# Altium schematic symbol library Digital.SchLib: 92 symbols (part 1 of 3)
Pins are listed as number, name and electrical type; pins without a type are passive.

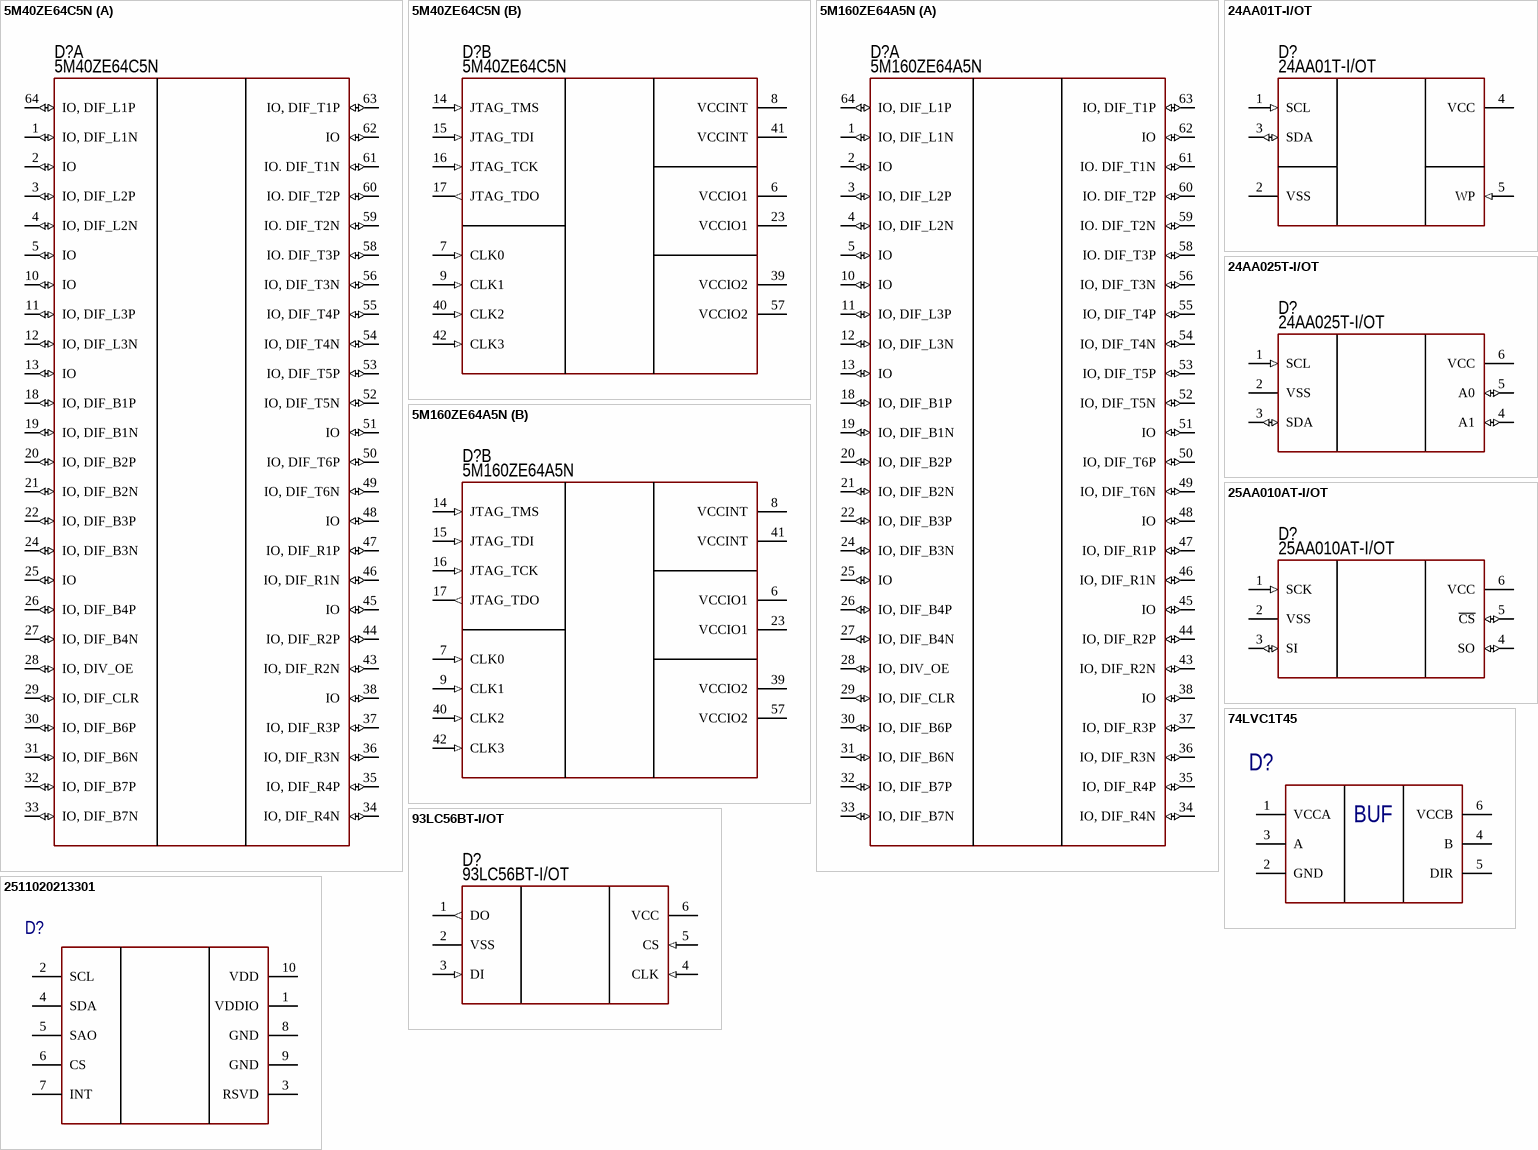
[diagram p0: symbols 5M40ZE64C5N to 2511020213301]

## 5M40ZE64C5N
designator D?
CPLD; Manufacturer: Altera; Model: 5M40ZE64C5N; HelpURL: https://www.digikey.com/products/en?keywords=5M40ZE64C5N; ComponentKind: 64-EQFP
footprint 64-EQFP
part A pins: 1 IO, DIF_L1N (io), 2 IO (io), 3 IO, DIF_L2P (io), 4 IO, DIF_L2N (io), 5 IO (io), 10 IO (io), 11 IO, DIF_L3P (io), 12 IO, DIF_L3N (io), 13 IO (io), 18 IO, DIF_B1P (io), 19 IO, DIF_B1N (io), 20 IO, DIF_B2P (io), 21 IO, DIF_B2N (io), 22 IO, DIF_B3P (io), 24 IO, DIF_B3N (io), 25 IO (io), 26 IO, DIF_B4P (io), 27 IO, DIF_B4N (io), 28 IO, DIV_OE (io), 29 IO, DIF_CLR (io), 30 IO, DIF_B6P (io), 31 IO, DIF_B6N (io), 32 IO, DIF_B7P (io), 33 IO, DIF_B7N (io), 34 IO, DIF_R4N (io), 35 IO, DIF_R4P (io), 36 IO, DIF_R3N (io), 37 IO, DIF_R3P (io), 38 IO (io), 43 IO, DIF_R2N (io), 44 IO, DIF_R2P (io), 45 IO (io), 46 IO, DIF_R1N (io), 47 IO, DIF_R1P (io), 48 IO (io), 49 IO, DIF_T6N (io), 50 IO, DIF_T6P (io), 51 IO (io), 52 IO, DIF_T5N (io), 53 IO, DIF_T5P (io), 54 IO, DIF_T4N (io), 55 IO, DIF_T4P (io), 56 IO, DIF_T3N (io), 58 IO. DIF_T3P (io), 59 IO. DIF_T2N (io), 60 IO. DIF_T2P (io), 61 IO. DIF_T1N (io), 62 IO (io), 63 IO, DIF_T1P (io), 64 IO, DIF_L1P (io)
part B pins: 6 VCCIO1 (power), 7 CLK0 (in), 8 VCCINT (power), 9 CLK1 (in), 14 JTAG_TMS (in), 15 JTAG_TDI (in), 16 JTAG_TCK (in), 17 JTAG_TDO (out), 23 VCCIO1 (power), 39 VCCIO2 (power), 40 CLK2 (in), 41 VCCINT (power), 42 CLK3 (in), 57 VCCIO2 (power)

## 5M160ZE64A5N
designator D?
CPLD; Manufacturer: Altera; Model: 5M160ZE64A5N; HelpURL: https://ru.mouser.com/ProductDetail/Intel-Altera/5M160ZE64A5N?qs=%2fha2pyFadugKio1SOCu6I%252bsDitheG9SqkG7k%252bT3t3%252bc61s5iRZpPlg%3d%3d; ComponentKind: 64-EQFP
footprint 64-EQFP
part A pins: 1 IO, DIF_L1N (io), 2 IO (io), 3 IO, DIF_L2P (io), 4 IO, DIF_L2N (io), 5 IO (io), 10 IO (io), 11 IO, DIF_L3P (io), 12 IO, DIF_L3N (io), 13 IO (io), 18 IO, DIF_B1P (io), 19 IO, DIF_B1N (io), 20 IO, DIF_B2P (io), 21 IO, DIF_B2N (io), 22 IO, DIF_B3P (io), 24 IO, DIF_B3N (io), 25 IO (io), 26 IO, DIF_B4P (io), 27 IO, DIF_B4N (io), 28 IO, DIV_OE (io), 29 IO, DIF_CLR (io), 30 IO, DIF_B6P (io), 31 IO, DIF_B6N (io), 32 IO, DIF_B7P (io), 33 IO, DIF_B7N (io), 34 IO, DIF_R4N (io), 35 IO, DIF_R4P (io), 36 IO, DIF_R3N (io), 37 IO, DIF_R3P (io), 38 IO (io), 43 IO, DIF_R2N (io), 44 IO, DIF_R2P (io), 45 IO (io), 46 IO, DIF_R1N (io), 47 IO, DIF_R1P (io), 48 IO (io), 49 IO, DIF_T6N (io), 50 IO, DIF_T6P (io), 51 IO (io), 52 IO, DIF_T5N (io), 53 IO, DIF_T5P (io), 54 IO, DIF_T4N (io), 55 IO, DIF_T4P (io), 56 IO, DIF_T3N (io), 58 IO. DIF_T3P (io), 59 IO. DIF_T2N (io), 60 IO. DIF_T2P (io), 61 IO. DIF_T1N (io), 62 IO (io), 63 IO, DIF_T1P (io), 64 IO, DIF_L1P (io)
part B pins: 6 VCCIO1 (power), 7 CLK0 (in), 8 VCCINT (power), 9 CLK1 (in), 14 JTAG_TMS (in), 15 JTAG_TDI (in), 16 JTAG_TCK (in), 17 JTAG_TDO (out), 23 VCCIO1 (power), 39 VCCIO2 (power), 40 CLK2 (in), 41 VCCINT (power), 42 CLK3 (in), 57 VCCIO2 (power)

## 24AA01T-I/OT
designator D?
EEPROM; Manufacturer: Microchip Technology; Model: 24AA01T-I/OT; HelpURL: https://www.digikey.com/product-detail/en/microchip-technology/24AA01T-I-OT/24AA01T-I-OTCT-ND/857670; ComponentKind: SOT23-5
footprint SOT23-5 (SOT23, 5-Leads, Body 2,90x2,80mm, Pitch 0,95mm, IPC Medium Density)
pins: 1 SCL (in), 2 VSS (power), 3 SDA (io), 4 VCC (power), 5 WP (in)

## 24AA025T-I/OT
designator D?
EEPROM; Manufacturer: Microchip Technology; Model: 24AA025T-I/OT; HelpURL: https://www.digikey.com/product-detail/en/microchip-technology/24AA025T-I-OT/24AA025T-I-OTCT-ND/2060104; ComponentKind: SOT23-6
footprint SOT23-6 (SOT23, 6-Leads, Body 2,90x2,45mm, Pitch 0,95mm, IPC Medium Density)
pins: 1 SCL (in), 2 VSS (power), 3 SDA (io), 4 A1 (io), 5 A0 (io), 6 VCC (power)

## 25AA010AT-I/OT
designator D?
EEPROM; Manufacturer: Microchip Technology; Model: 25AA010AT-I/OT; HelpURL: https://www.digikey.com/product-detail/en/microchip-technology/25AA010AT-I-OT/25AA010AT-I-OTCT-ND/1212539; ComponentKind: SOT23-6
footprint SOT23-6 (SOT23, 6-Leads, Body 2,90x2,45mm, Pitch 0,95mm, IPC Medium Density)
pins: 1 SCK (in), 2 VSS (power), 3 SI (io), 4 SO (io), 5 ~{CS} (io), 6 VCC (power)

## 74LVC1T45
designator D?, comment 74LVCH1T45GW,125  (value not drawn)
Manufacturer: NEXPERIA; ValueManufacturerPartNumber: 74LVCH1T45GW,125 NEXPERIA; Model: 74LVCH1T45GW,125; Package: TSSOP-6; HelpURL: https://www.nexperia.com/products/analog-logic-ics/asynchronous-interface-logic/voltage-translators-level-shifters/series/74LVC1T45-74LVCH1T45.html
pins: 1 VCCA, 2 GND, 3 A, 4 B, 5 DIR, 6 VCCB
text: BUF

## 93LC56BT-I/OT
designator D?
EEPROM; Manufacturer: Microchip Technology; Model: 93LC56BT-I/OT; HelpURL: https://www.digikey.com/product-detail/en/microchip-technology/93LC56BT-I-OT/93LC56BT-I-OTCT-ND/857632; ComponentKind: SOT23-6
footprint SOT23-6 (SOT23, 6-Leads, Body 2,90x2,45mm, Pitch 0,95mm, IPC Medium Density)
pins: 1 DO (out), 2 VSS (power), 3 DI (in), 4 CLK (in), 5 CS (in), 6 VCC (power)

## 2511020213301
designator D?  (value not drawn)
Absolute Pressure Sensor; Manufacturer: WURTH; Model: 2511020213301; Package: 10-WFLGA; HelpURL: https://www.we-online.com/catalog/en/WSEN-PADS
pins: 1 VDDIO (power) "3.3V supply", 2 SCL "I2C/ SPI serial clock", 3 RSVD (power) "Connect to ground", 4 SDA "I2C serial data; SPI serial data input", 5 SAO "I2C device address selection", 6 CS "I2C enable/disable", 7 INT (power) "Interrupt", 8 GND (power) "Provides timing of the serial interface", 9 GND (power), 10 VDD (power) "3.3V supply"

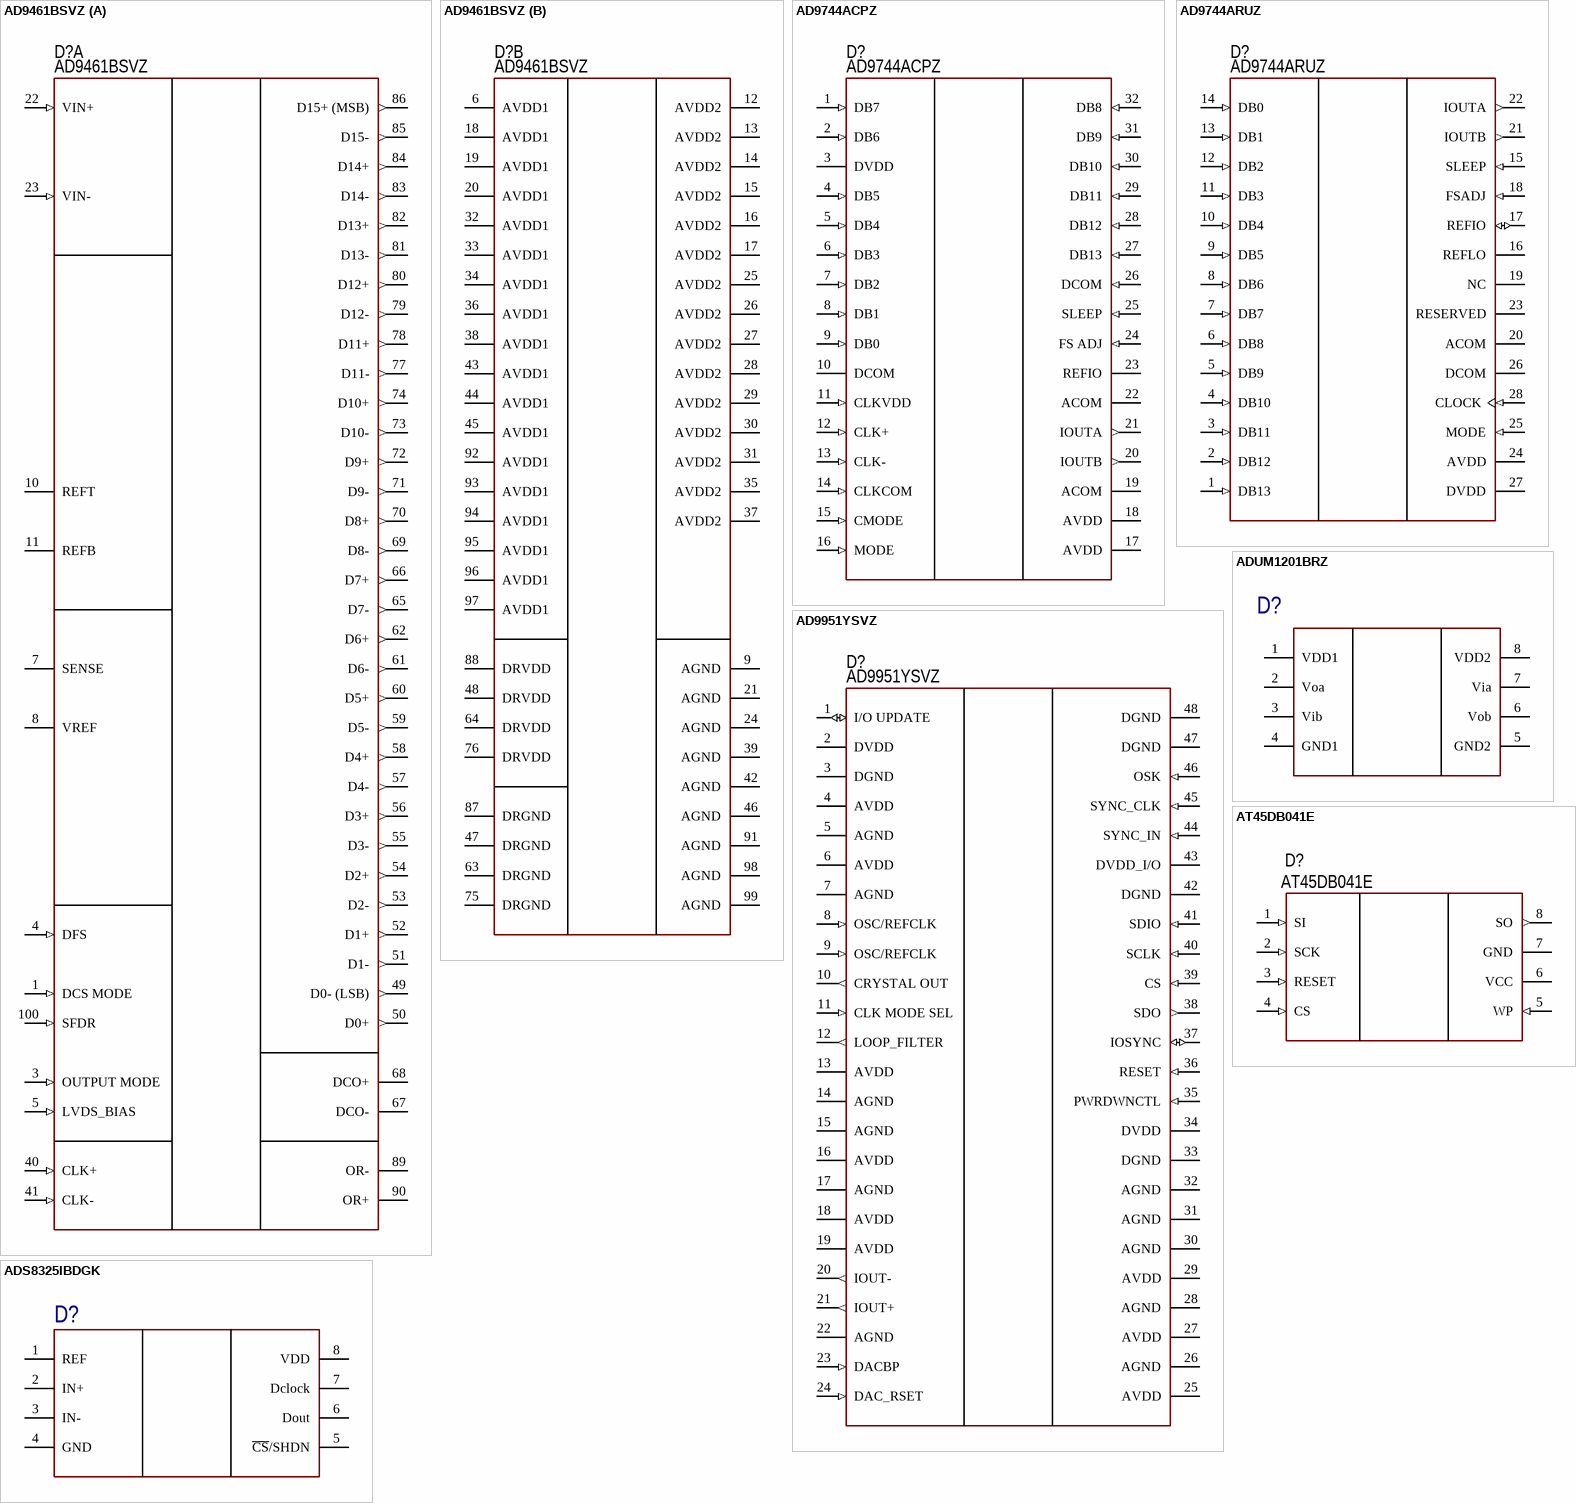
[diagram p1: symbols AD9461BSVZ to AT45DB041E]

## AD9461BSVZ
designator D?
ADC; Manufacturer: Analog Devices; Model: AD9461BSVZ; HelpURL: https://www.digikey.com/products/en?keywords=AD9461BSVZ; ComponentKind: 100-LQFP
footprint 100-LQFP (Thin QFP, 100-Leads, Body 14x14mm, Pitch 0.5mm, IPC Medium Density)
part A pins: 1 DCS MODE (in), 3 OUTPUT MODE (in), 4 DFS (in), 5 LVDS_BIAS (in), 7 SENSE (power), 8 VREF (power), 10 REFT (power), 11 REFB (power), 22 VIN+ (in), 23 VIN- (in), 40 CLK+ (in), 41 CLK- (in), 49 D0- (LSB) (out), 50 D0+ (out), 51 D1- (out), 52 D1+ (out), 53 D2- (out), 54 D2+ (out), 55 D3- (out), 56 D3+ (out), 57 D4- (out), 58 D4+ (out), 59 D5- (out), 60 D5+ (out), 61 D6- (out), 62 D6+ (out), 65 D7- (out), 66 D7+ (out), 67 DCO-, 68 DCO+, 69 D8- (out), 70 D8+ (out), 71 D9- (out), 72 D9+ (out), 73 D10- (out), 74 D10+ (out), 77 D11- (out), 78 D11+ (out), 79 D12- (out), 80 D12+ (out), 81 D13- (out), 82 D13+ (out), 83 D14- (out), 84 D14+ (out), 85 D15- (out), 86 D15+ (MSB) (out), 89 OR-, 90 OR+, 100 SFDR (in)
part B pins: 6 AVDD1 (power), 9 AGND (power), 12 AVDD2 (power), 13 AVDD2 (power), 14 AVDD2 (power), 15 AVDD2 (power), 16 AVDD2 (power), 17 AVDD2 (power), 18 AVDD1 (power), 19 AVDD1 (power), 20 AVDD1 (power), 21 AGND (power), 24 AGND (power), 25 AVDD2 (power), 26 AVDD2 (power), 27 AVDD2 (power), 28 AVDD2 (power), 29 AVDD2 (power), 30 AVDD2 (power), 31 AVDD2 (power), 32 AVDD1 (power), 33 AVDD1 (power), 34 AVDD1 (power), 35 AVDD2 (power), 36 AVDD1 (power), 37 AVDD2 (power), 38 AVDD1 (power), 39 AGND (power), 42 AGND (power), 43 AVDD1 (power), 44 AVDD1 (power), 45 AVDD1 (power), 46 AGND (power), 47 DRGND (power), 48 DRVDD (power), 63 DRGND (power), 64 DRVDD (power), 75 DRGND (power), 76 DRVDD (power), 87 DRGND (power), 88 DRVDD (power), 91 AGND (power), 92 AVDD1 (power), 93 AVDD1 (power), 94 AVDD1 (power), 95 AVDD1 (power), 96 AVDD1 (power), 97 AVDD1 (power), 98 AGND (power), 99 AGND (power)

## AD9744ACPZ
designator D?
DAC; Manufacturer: Analog Devices; Model: AD9744ACPZ; HelpURL: https://www.digikey.com/product-detail/en/analog-devices-inc/AD9744ACPZRL7/AD9744ACPZRL7CT-ND/3740746; ComponentKind: 32-VQFN
footprint 32-VQFN (5x5 mm) (QFN, 32-Leads, Body 5x5mm, Pitch 0.5mm, Thermal Pad 3.45x3.45mm, TI Recommended)
pins: 1 DB7 (in), 2 DB6 (in), 3 DVDD (power), 4 DB5 (in), 5 DB4 (in), 6 DB3 (in), 7 DB2 (in), 8 DB1 (in), 9 DB0 (in), 10 DCOM (power), 11 CLKVDD (in), 12 CLK+ (in), 13 CLK- (in), 14 CLKCOM (in), 15 CMODE (in), 16 MODE (in), 17 AVDD (power), 18 AVDD (power), 19 ACOM (power), 20 IOUTB (out), 21 IOUTA (out), 22 ACOM (power), 23 REFIO (power), 24 FS ADJ (in), 25 SLEEP (in), 26 DCOM (in), 27 DB13 (in), 28 DB12 (in), 29 DB11 (in), 30 DB10 (in), 31 DB9 (in), 32 DB8 (in)

## AD9744ARUZ
designator D?
DAC; Manufacturer: Analog Devices; Model: AD9744ARUZ; ComponentKind: 28-TSSOP; HelpURL: https://www.digikey.com/product-detail/en/analog-devices-inc/AD9744ARUZRL7/AD9744ARUZRL7CT-ND/3678594
footprint 28-TSSOP (SOP, 28-Leads, Body 9,70x4,40mm, Pitch 0,65mm, IPC Medium Density)
pins: 1 DB13 (in) "Most Significant Data Bit (MSB).", 2 DB12 (in) "Data Bit 12", 3 DB11 (in) "Data Bit 11", 4 DB10 (in) "Data Bit 10", 5 DB9 (in) "Data Bit 9", 6 DB8 (in) "Data Bit 8", 7 DB7 (in) "Data Bit 7", 8 DB6 (in) "Data Bit 6", 9 DB5 (in) "Data Bit 5", 10 DB4 (in) "Data Bit 4", 11 DB3 (in) "Data Bit 3", 12 DB2 (in) "Data Bit 2", 13 DB1 (in) "Data Bit 1", 14 DB0 (in) "Least Significant Data Bit (LSB).", 15 SLEEP (in) "Power-Down Control Input. Active high. Contains active pull-down circuit; it may be left unterminated if not used.", 16 REFLO "Reference Ground when Internal 1.2 V Reference Used. Connect to ACOM for both internal and external reference operation modes.", 17 REFIO (io) "Reference Input/Output. Serves as reference input when using external reference. Serves as 1.2 V reference output when using internal reference. Requires 0.1 uF capacitor to ACOM when using internal reference.", 18 FSADJ (in) "Full-Scale Current Output Adjust.", 19 NC "No Internal Connection.", 20 ACOM (power) "Analog Common.", 21 IOUTB (out) "Complementary DAC Current Output. Full-scale current when all data bits are 0s.", 22 IOUTA (out) "DAC Current Output. Full-scale current when all data bits are 1s.", 23 RESERVED "Reserved. Do not connect to common or supply.", 24 AVDD (power) "Analog Supply Voltage (3.3 V).", 25 MODE (in) "Selects Input Data Format. Connect to DCOM for straight binary, DVDD for twos complement.", 26 DCOM (power) "Digital Common.", 27 DVDD (power) "Digital Supply Voltage (3.3 V).", 28 CLOCK (in) "Clock Input. Data latched on positive edge of clock."

## AD9951YSVZ
designator D?
DDS; Manufacturer: Analog Devices; Model: AD9951YSVZ; HelpURL: https://www.digikey.com/products/en?keywords=AD9951YSVZ; ComponentKind: 48-TQFP
footprint 48-TQFP
pins: 1 I/O UPDATE (io), 2 DVDD (power), 3 DGND (power), 4 AVDD (power), 5 AGND (power), 6 AVDD (power), 7 AGND (power), 8 OSC/REFCLK (in), 9 OSC/REFCLK (in), 10 CRYSTAL OUT (out), 11 CLK MODE SEL (in), 12 LOOP_FILTER (out), 13 AVDD (power), 14 AGND (power), 15 AGND (power), 16 AVDD (power), 17 AGND (power), 18 AVDD (power), 19 AVDD (power), 20 IOUT- (out), 21 IOUT+ (out), 22 AGND (power), 23 DACBP (in), 24 DAC_RSET (in), 25 AVDD (power), 26 AGND (power), 27 AVDD (power), 28 AGND (power), 29 AVDD (power), 30 AGND (power), 31 AGND (power), 32 AGND (power), 33 DGND (power), 34 DVDD (power), 35 PWRDWNCTL (in), 36 RESET (in), 37 IOSYNC (io), 38 SDO (out), 39 CS (in), 40 SCLK (in), 41 SDIO (in), 42 DGND (power), 43 DVDD_I/O (power), 44 SYNC_IN (in), 45 SYNC_CLK (in), 46 OSK (in), 47 DGND (power), 48 DGND (power)

## ADS8325IBDGK
designator D?  (value not drawn)
Manufacturer: TEXAS INSTRUMENTS; ValueManufacturerPartNumber: ADS8325IBDGK TEXAS INSTRUMENTS; Model: ADS8325IBDGK; Package: MSOP-8; HelpURL: https://www.ti.com/product/ADS8325
footprint 8-MSOP
pins: 1 REF, 2 IN+, 3 IN-, 4 GND, 5 ~{CS}/SHDN, 6 Dout, 7 Dclock, 8 VDD

## ADUM1201BRZ
designator D?  (value not drawn)
Manufacturer: ANALOG DEVICES; Model: ADUM1201BRZ; HelpURL: https://imrad.com.ua/userdata/modules/productFiles/LQV8X7FS_ADuM1200_1201.pdf; Package: SOIC-8
footprint 8-SOIC
pins: 1 VDD1, 2 Voa, 3 Vib, 4 GND1, 5 GND2, 6 Vob, 7 Via, 8 VDD2

## AT45DB041E
designator D?
Flash; Manufacturer: Adesto Technologies; Model: AT45DB041E-SSHN2B-T; HelpURL: https://www.digikey.com/product-detail/en/adesto-technologies/AT45DB041E-SSHN2B-T/AT45DB041E-SSHN2B-TCT-ND/4311898; ComponentKind: 8-SOIC
footprint 8-SOIC
pins: 1 SI (in), 2 SCK (in), 3 RESET (in), 4 CS (in), 5 WP (in), 6 VCC (power), 7 GND (power), 8 SO (out)

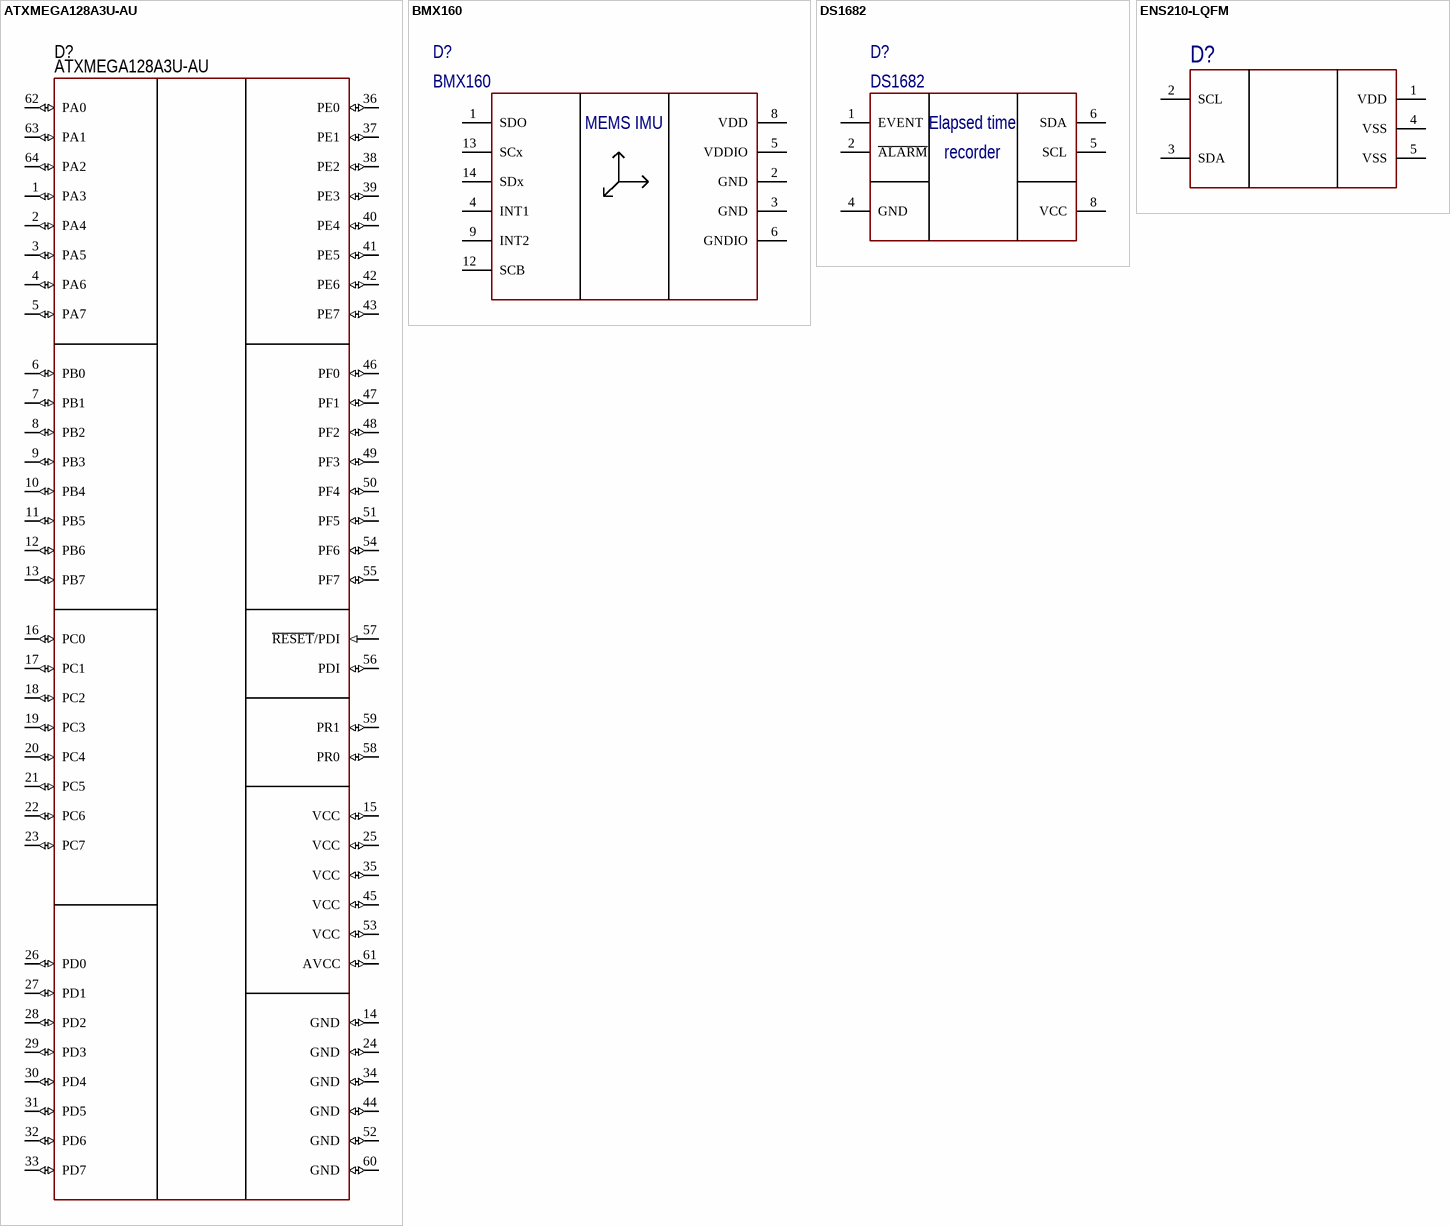
[diagram p2: symbols ATXMEGA128A3U-AU to ENS210-LQFM]

## ATXMEGA128A3U-AU
designator D?
MCU; Manufacturer: Microchip Technology; Model: ATXMEGA128A3U-AU; HelpURL: https://www.digikey.com/product-detail/en/microchip-technology/ATXMEGA128A3U-AU/ATXMEGA128A3U-AU-ND/3046467; ComponentKind: 64-TQFP
footprint 64-TQFP (SOIC, 4-Leads, Body 4,60x6,50mm, Pitch 1,27mm, IPC Medium Density)
pins: 1 PA3 (io), 2 PA4 (io), 3 PA5 (io), 4 PA6 (io), 5 PA7 (io), 6 PB0 (io), 7 PB1 (io), 8 PB2 (io), 9 PB3 (io), 10 PB4 (io), 11 PB5 (io), 12 PB6 (io), 13 PB7 (io), 14 GND (io), 15 VCC (io), 16 PC0 (io), 17 PC1 (io), 18 PC2 (io), 19 PC3 (io), 20 PC4 (io), 21 PC5 (io), 22 PC6 (io), 23 PC7 (io), 24 GND (io), 25 VCC (io), 26 PD0 (io), 27 PD1 (io), 28 PD2 (io), 29 PD3 (io), 30 PD4 (io), 31 PD5 (io), 32 PD6 (io), 33 PD7 (io), 34 GND (io), 35 VCC (io), 36 PE0 (io), 37 PE1 (io), 38 PE2 (io), 39 PE3 (io), 40 PE4 (io), 41 PE5 (io), 42 PE6 (io), 43 PE7 (io), 44 GND (io), 45 VCC (io), 46 PF0 (io), 47 PF1 (io), 48 PF2 (io), 49 PF3 (io), 50 PF4 (io), 51 PF5 (io), 52 GND (io), 53 VCC (io), 54 PF6 (io), 55 PF7 (io), 56 PDI (io), 57 ~{RESET}/PDI (in), 58 PR0 (io), 59 PR1 (io), 60 GND (io), 61 AVCC (io), 62 PA0 (io), 63 PA1 (io), 64 PA2 (io)

## BMX160
designator D?
3-Axis IMU; Manufacturer: BOSCH; SupplyVoltage: 1.71...3.6; HelpURL: https://eu.mouser.com/ProductDetail/Bosch-Sensortec/BMX160?qs=w%2Fv1CP2dgqoayZdn49CsrA%3D%3D; Model: BMX160; Package: LGA-14
pins: 1 SDO "Active low, chip select input", 2 GND, 3 GND, 4 INT1 "Ground", 5 VDDIO, 6 GNDIO, 8 VDD "Serial data out", 9 INT2, 12 SCB, 13 SCx, 14 SDx "Ground"
text: MEMS IMU

## DS1682
designator D?
Elapsed time recorder; Manufacturer: MAXIM; Model: DS1682; Package: SOIC-8
footprint 8-SOIC
pins: 1 EVENT, 2 ~{ALARM}, 4 GND, 5 SCL, 6 SDA, 8 VCC
text: Elapsed time; recorder

## ENS210-LQFM
designator D?  (value not drawn)
Humidity Temperature Sensor 0 ~ 100% RH I²C; Manufacturer: SCIOSENSE; HelpURL: https://www.sciosense.com/products/relative-humidity-and-temperature-sensors/ens210/; Model: ENS210-LQFM; Package: 4-QFN (2x2)
pins: 1 VDD (power), 2 SCL, 3 SDA, 4 VSS (power), 5 VSS (power)

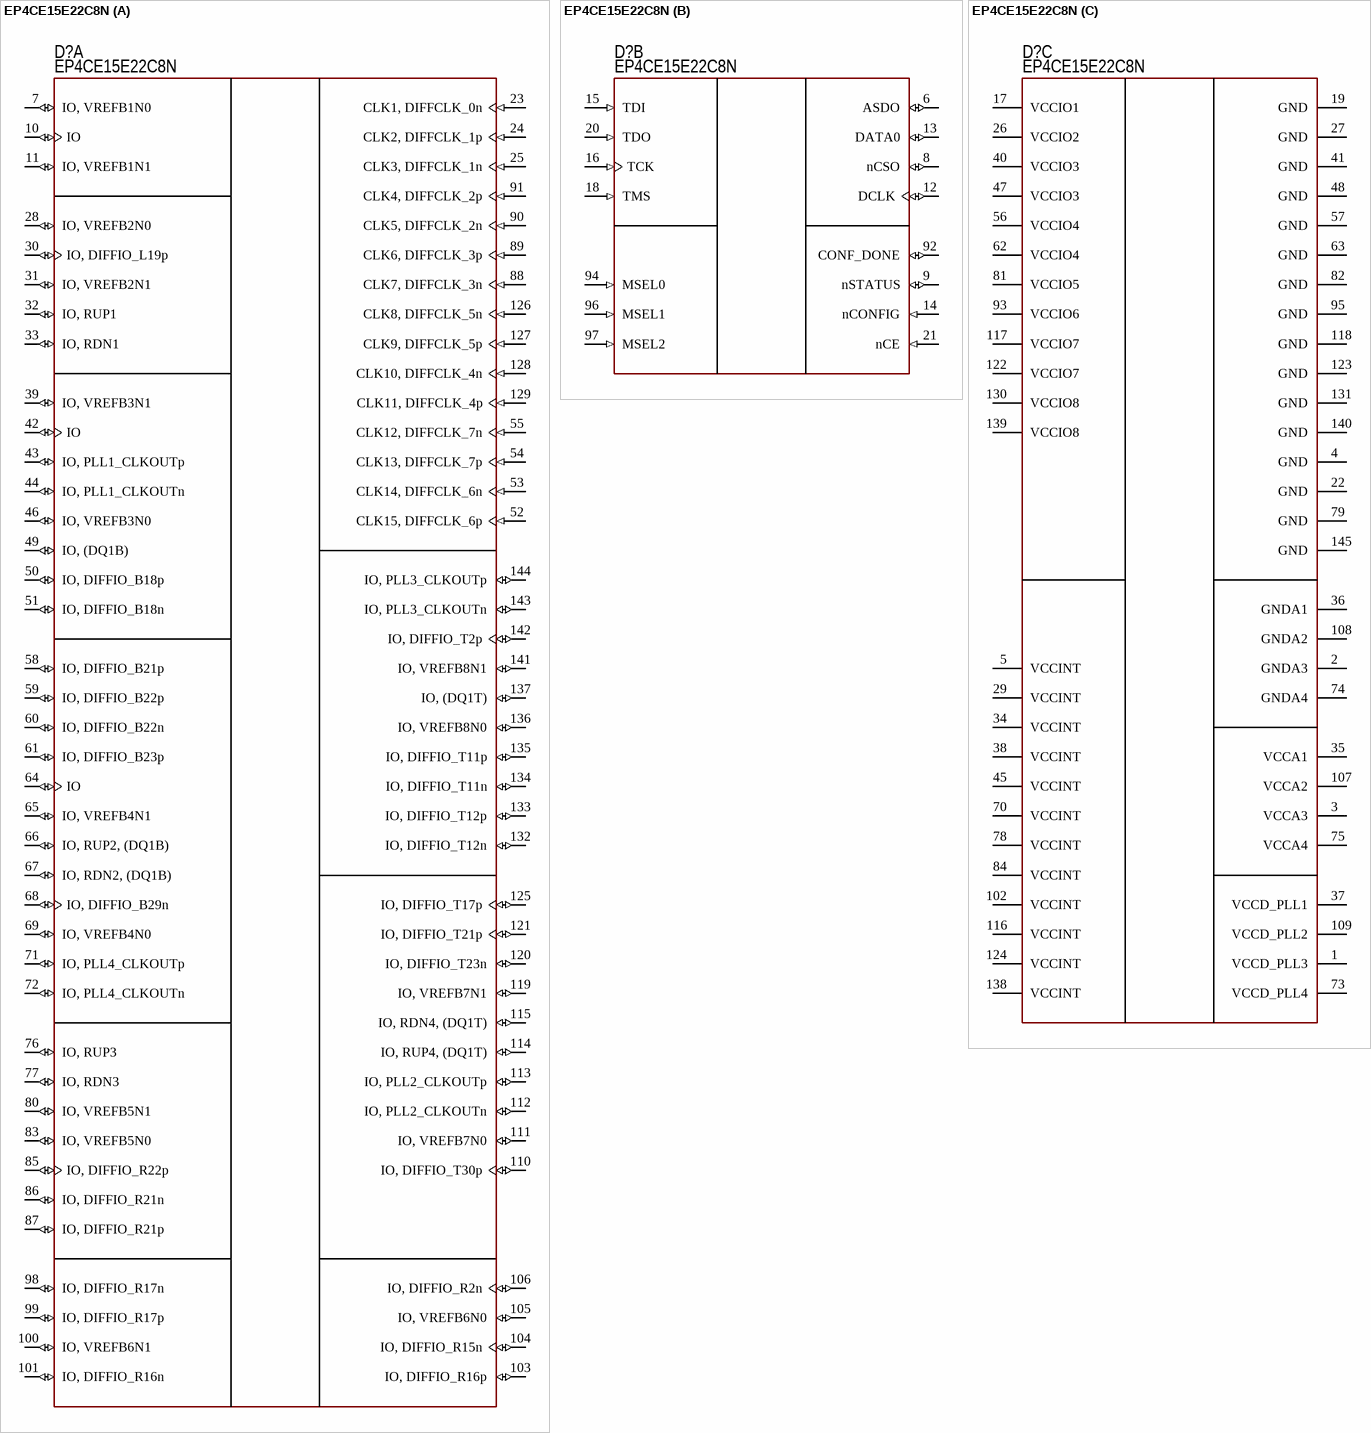
[diagram p3: symbol EP4CE15E22C8N]

## EP4CE15E22C8N
designator D?
FPGA; Manufacturer: Altera; Model: EP4CE15E22C8N; ComponentKind: 144-EQFP; HelpURL: https://www.digikey.com/products/en?keywords=EP4CE15E22C8N
footprint 144-EQFP (Shrink QFP, 144-Leads, Body 20x20mm, Pitch 0.5mm, Thermal Pad 5.55x5.55mm, IPC High Density)
part A pins: 7 IO, VREFB1N0 (io), 10 IO (io), 11 IO, VREFB1N1 (io), 23 CLK1, DIFFCLK_0n (in), 24 CLK2, DIFFCLK_1p (in), 25 CLK3, DIFFCLK_1n (in), 28 IO, VREFB2N0 (io), 30 IO, DIFFIO_L19p (io), 31 IO, VREFB2N1 (io), 32 IO, RUP1 (io), 33 IO, RDN1 (io), 39 IO, VREFB3N1 (io), 42 IO (io), 43 IO, PLL1_CLKOUTp (io), 44 IO, PLL1_CLKOUTn (io), 46 IO, VREFB3N0 (io), 49 IO, (DQ1B) (io), 50 IO, DIFFIO_B18p (io), 51 IO, DIFFIO_B18n (io), 52 CLK15, DIFFCLK_6p (in), 53 CLK14, DIFFCLK_6n (in), 54 CLK13, DIFFCLK_7p (in), 55 CLK12, DIFFCLK_7n (in), 58 IO, DIFFIO_B21p (io), 59 IO, DIFFIO_B22p (io), 60 IO, DIFFIO_B22n (io), 61 IO, DIFFIO_B23p (io), 64 IO (io), 65 IO, VREFB4N1 (io), 66 IO, RUP2, (DQ1B) (io), 67 IO, RDN2, (DQ1B) (io), 68 IO, DIFFIO_B29n (io), 69 IO, VREFB4N0 (io), 71 IO, PLL4_CLKOUTp (io), 72 IO, PLL4_CLKOUTn (io), 76 IO, RUP3 (io), 77 IO, RDN3 (io), 80 IO, VREFB5N1 (io), 83 IO, VREFB5N0 (io), 85 IO, DIFFIO_R22p (io), 86 IO, DIFFIO_R21n (io), 87 IO, DIFFIO_R21p (io), 88 CLK7, DIFFCLK_3n (in), 89 CLK6, DIFFCLK_3p (in), 90 CLK5, DIFFCLK_2n (in), 91 CLK4, DIFFCLK_2p (in), 98 IO, DIFFIO_R17n (io), 99 IO, DIFFIO_R17p (io), 100 IO, VREFB6N1 (io), 101 IO, DIFFIO_R16n (io), 103 IO, DIFFIO_R16p (io), 104 IO, DIFFIO_R15n (io), 105 IO, VREFB6N0 (io), 106 IO, DIFFIO_R2n (io), 110 IO, DIFFIO_T30p (io), 111 IO, VREFB7N0 (io), 112 IO, PLL2_CLKOUTn (io), 113 IO, PLL2_CLKOUTp (io), 114 IO, RUP4, (DQ1T) (io), 115 IO, RDN4, (DQ1T) (io), 119 IO, VREFB7N1 (io), 120 IO, DIFFIO_T23n (io), 121 IO, DIFFIO_T21p (io), 125 IO, DIFFIO_T17p (io), 126 CLK8, DIFFCLK_5n (in), 127 CLK9, DIFFCLK_5p (in), 128 CLK10, DIFFCLK_4n (in), 129 CLK11, DIFFCLK_4p (in), 132 IO, DIFFIO_T12n (io), 133 IO, DIFFIO_T12p (io), 134 IO, DIFFIO_T11n (io), 135 IO, DIFFIO_T11p (io), 136 IO, VREFB8N0 (io), 137 IO, (DQ1T) (io), 141 IO, VREFB8N1 (io), 142 IO, DIFFIO_T2p (io), 143 IO, PLL3_CLKOUTn (io), 144 IO, PLL3_CLKOUTp (io)
part B pins: 6 ASDO (io), 8 nCSO (io), 9 nSTATUS (io), 12 DCLK (io), 13 DATA0 (io), 14 nCONFIG (in), 15 TDI (in), 16 TCK (in), 18 TMS (in), 20 TDO (in), 21 nCE (in), 92 CONF_DONE (io), 94 MSEL0 (in), 96 MSEL1 (in), 97 MSEL2 (in)
part C pins: 1 VCCD_PLL3 (power), 2 GNDA3 (power), 3 VCCA3 (power), 4 GND (power), 5 VCCINT (power), 17 VCCIO1 (power), 19 GND (power), 22 GND (power), 26 VCCIO2 (power), 27 GND (power), 29 VCCINT (power), 34 VCCINT (power), 35 VCCA1 (power), 36 GNDA1 (power), 37 VCCD_PLL1 (power), 38 VCCINT (power), 40 VCCIO3 (power), 41 GND (power), 45 VCCINT (power), 47 VCCIO3 (power), 48 GND (power), 56 VCCIO4 (power), 57 GND (power), 62 VCCIO4 (power), 63 GND (power), 70 VCCINT (power), 73 VCCD_PLL4 (power), 74 GNDA4 (power), 75 VCCA4 (power), 78 VCCINT (power), 79 GND (power), 81 VCCIO5 (power), 82 GND (power), 84 VCCINT (power), 93 VCCIO6 (power), 95 GND (power), 102 VCCINT (power), 107 VCCA2 (power), 108 GNDA2 (power), 109 VCCD_PLL2 (power), 116 VCCINT (power), 117 VCCIO7 (power), 118 GND (power), 122 VCCIO7 (power), 123 GND (power), 124 VCCINT (power), 130 VCCIO8 (power), 131 GND (power), 138 VCCINT (power), 139 VCCIO8 (power), 140 GND (power), 145 GND (power)

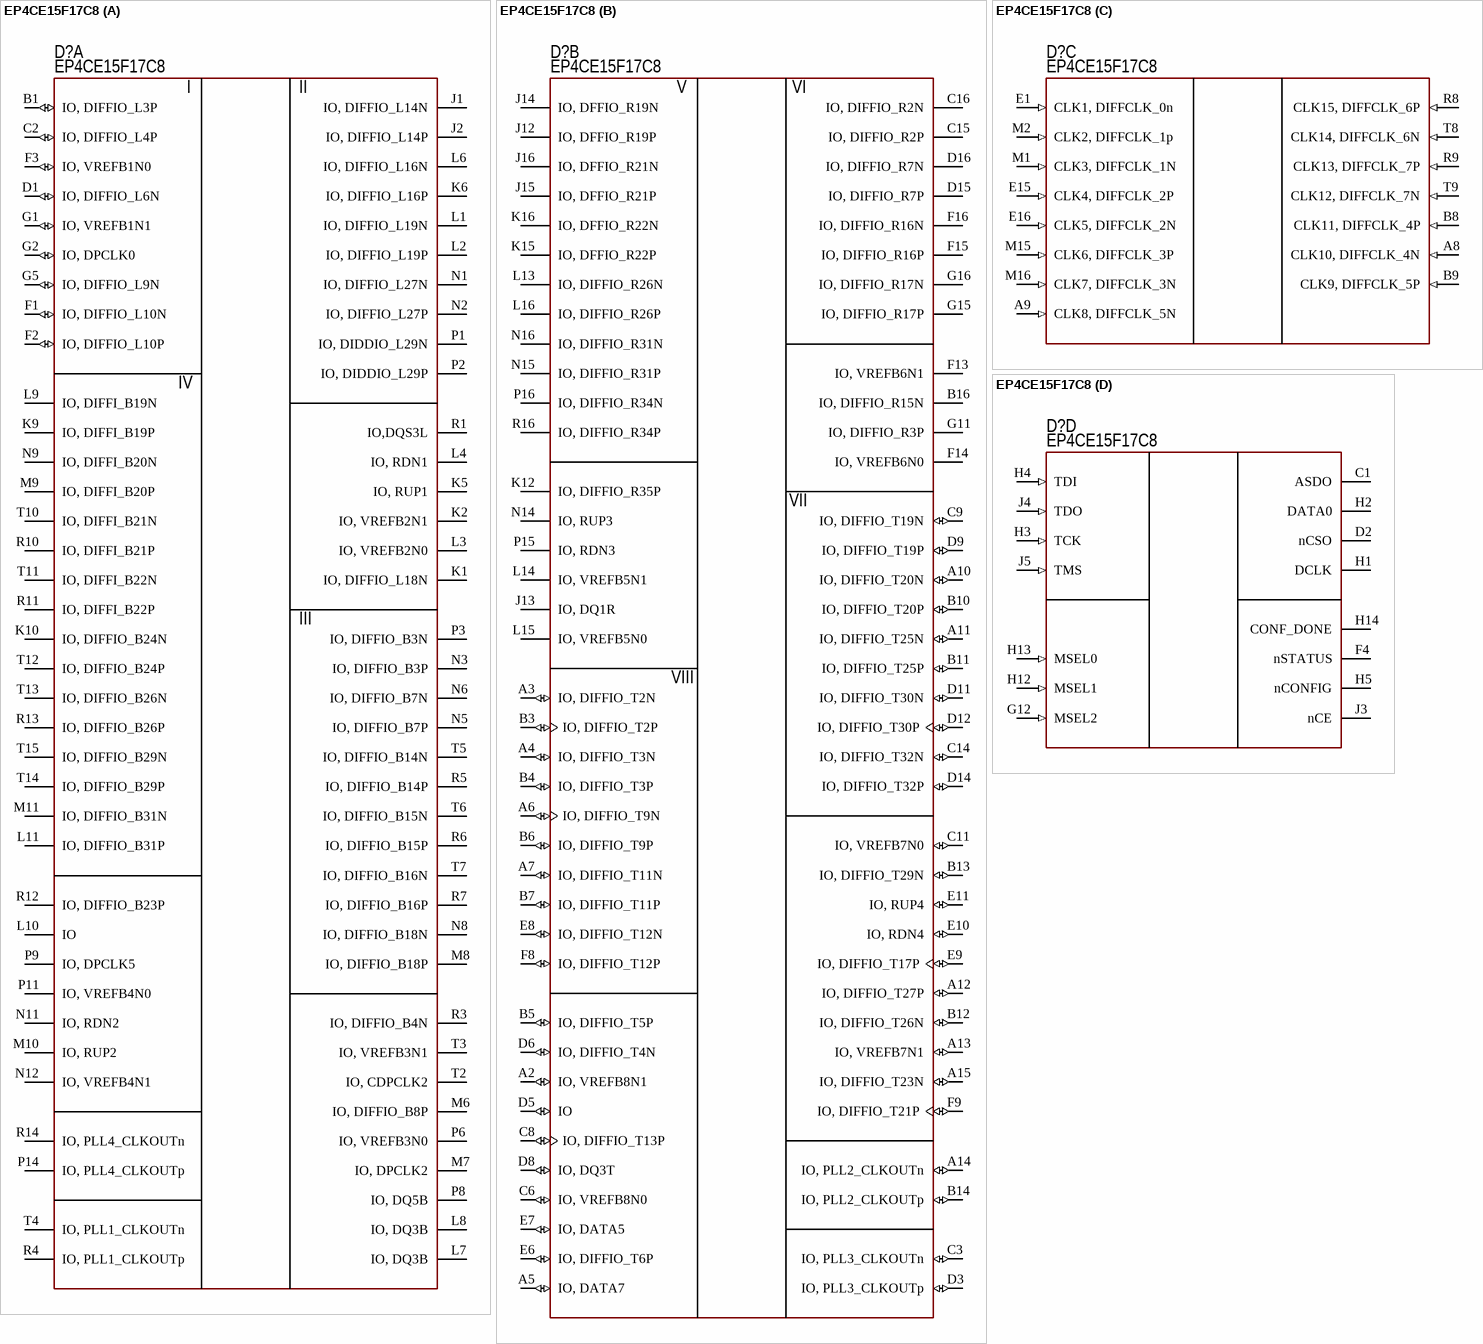
[diagram p4: symbol EP4CE15F17C8]

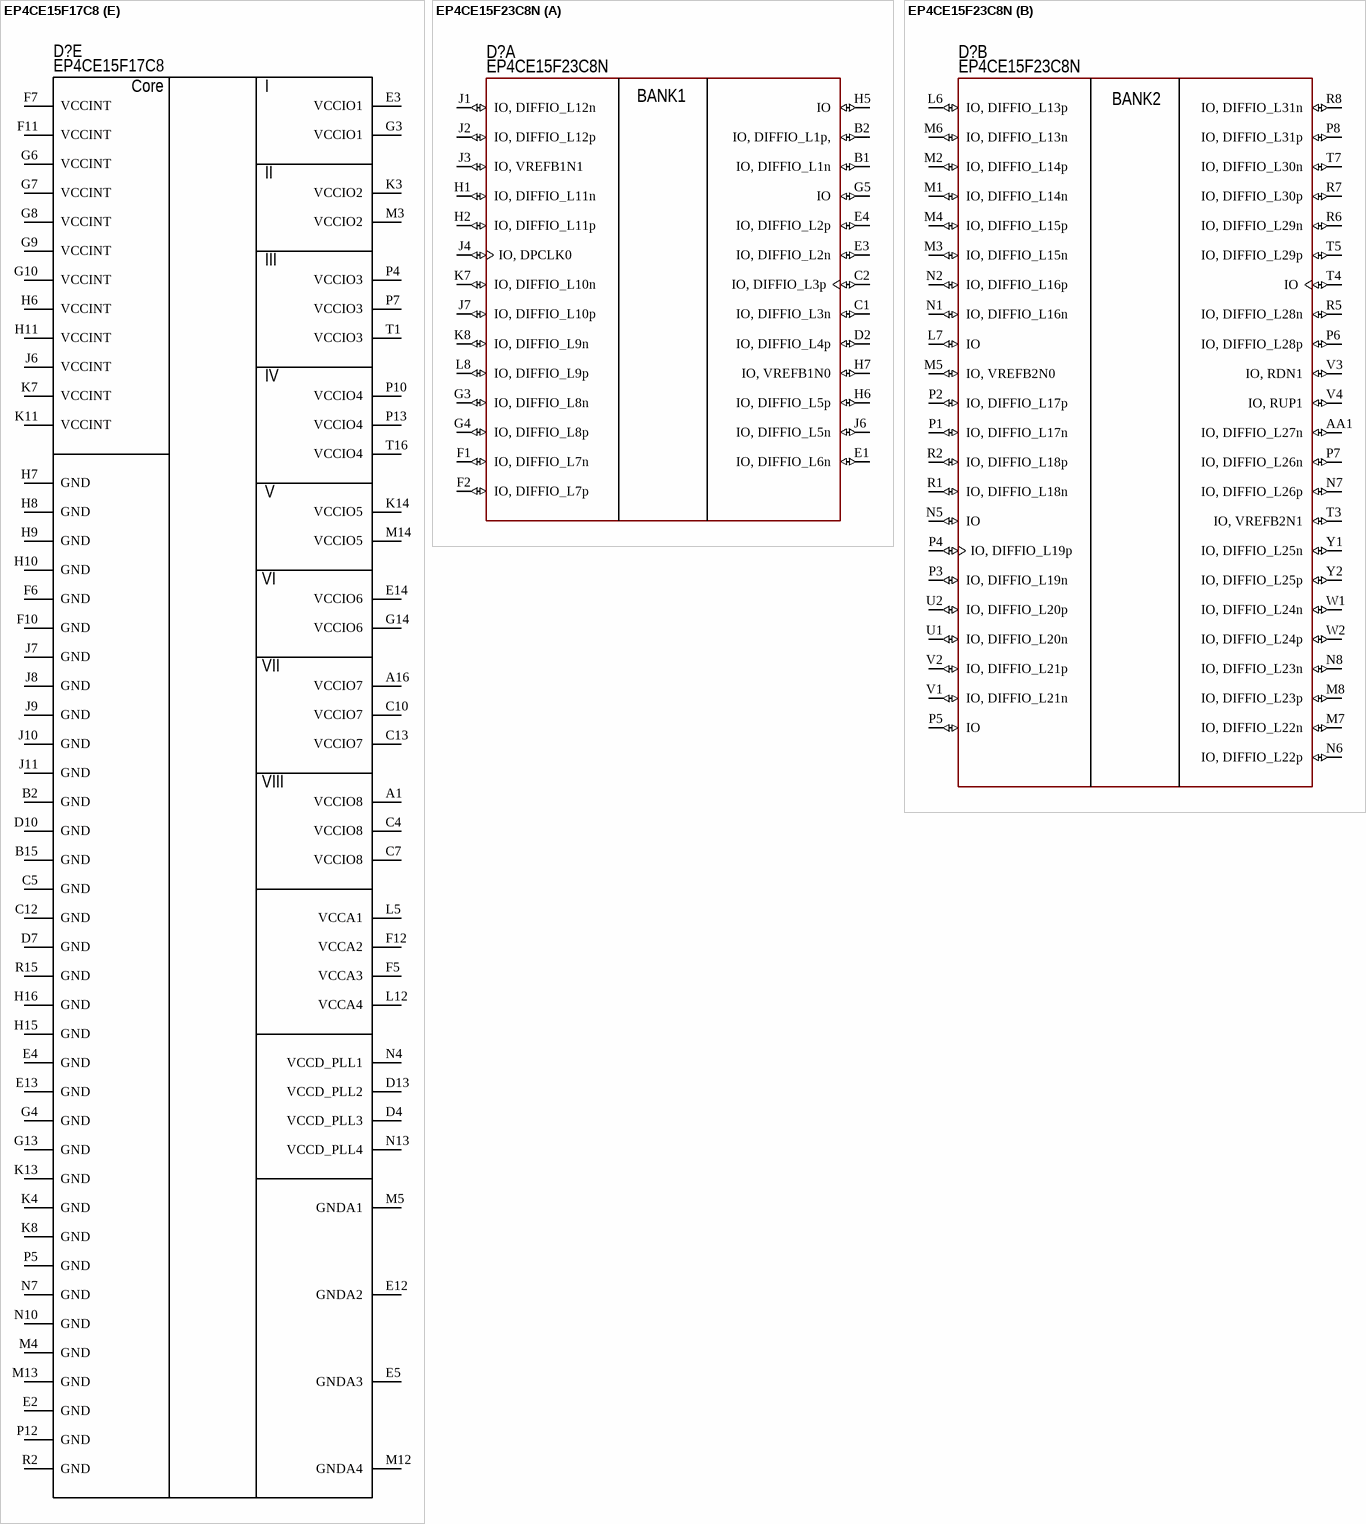
[diagram p5: symbols EP4CE15F17C8 to EP4CE15F23C8N]

## EP4CE15F17C8
designator D?
FPGA; Manufacturer: Altera; Model: EP4CE15F17C8; HelpURL: https://www.digikey.com/product-detail/en/altera/EP4CE15F17C8N/544-2808-ND/2288302; ComponentKind: 256-FBGA
footprint 256-FBGA (BGA, 256-Leads, Body 17x17mm, Pitch 1mm)
part A pins: B1 IO, DIFFIO_L3P (io), C2 IO, DIFFIO_L4P (io), D1 IO, DIFFIO_L6N (io), F1 IO, DIFFIO_L10N (io), F2 IO, DIFFIO_L10P (io), F3 IO, VREFB1N0 (io), G1 IO, VREFB1N1 (io), G2 IO, DPCLK0 (io), G5 IO, DIFFIO_L9N (io), J1 IO, DIFFIO_L14N, J2 IO, DIFFIO_L14P, K1 IO, DIFFIO_L18N, K2 IO, VREFB2N1, K5 IO, RUP1, K6 IO, DIFFIO_L16P, K9 IO, DIFFI_B19P, K10 IO, DIFFIO_B24N, L1 IO, DIFFIO_L19N, L2 IO, DIFFIO_L19P, L3 IO, VREFB2N0, L4 IO, RDN1, L6 IO, DIFFIO_L16N, L7 IO, DQ3B, L8 IO, DQ3B, L9 IO, DIFFI_B19N, L10 IO, L11 IO, DIFFIO_B31P, M6 IO, DIFFIO_B8P, M7 IO, DPCLK2, M8 IO, DIFFIO_B18P, M9 IO, DIFFI_B20P, M10 IO, RUP2, M11 IO, DIFFIO_B31N, N1 IO, DIFFIO_L27N, N2 IO, DIFFIO_L27P, N3 IO, DIFFIO_B3P, N5 IO, DIFFIO_B7P, N6 IO, DIFFIO_B7N, N8 IO, DIFFIO_B18N, N9 IO, DIFFI_B20N, N11 IO, RDN2, N12 IO, VREFB4N1, P1 IO, DIDDIO_L29N, P2 IO, DIDDIO_L29P, P3 IO, DIFFIO_B3N, P6 IO, VREFB3N0, P8 IO, DQ5B, P9 IO, DPCLK5, P11 IO, VREFB4N0, P14 IO, PLL4_CLKOUTp, R1 IO,DQS3L, R3 IO, DIFFIO_B4N, R4 IO, PLL1_CLKOUTp, R5 IO, DIFFIO_B14P, R6 IO, DIFFIO_B15P, R7 IO, DIFFIO_B16P, R10 IO, DIFFI_B21P, R11 IO, DIFFI_B22P, R12 IO, DIFFIO_B23P, R13 IO, DIFFIO_B26P, R14 IO, PLL4_CLKOUTn, T2 IO, CDPCLK2, T3 IO, VREFB3N1, T4 IO, PLL1_CLKOUTn, T5 IO, DIFFIO_B14N, T6 IO, DIFFIO_B15N, T7 IO, DIFFIO_B16N, T10 IO, DIFFI_B21N, T11 IO, DIFFI_B22N, T12 IO, DIFFIO_B24P, T13 IO, DIFFIO_B26N, T14 IO, DIFFIO_B29P, T15 IO, DIFFIO_B29N
part B pins: A2 IO, VREFB8N1 (io), A3 IO, DIFFIO_T2N (io), A4 IO, DIFFIO_T3N (io), A5 IO, DATA7 (io), A6 IO, DIFFIO_T9N (io), A7 IO, DIFFIO_T11N (io), A10 IO, DIFFIO_T20N (io), A11 IO, DIFFIO_T25N (io), A12 IO, DIFFIO_T27P (io), A13 IO, VREFB7N1 (io), A14 IO, PLL2_CLKOUTn (io), A15 IO, DIFFIO_T23N (io), B3 IO, DIFFIO_T2P (io), B4 IO, DIFFIO_T3P (io), B5 IO, DIFFIO_T5P (io), B6 IO, DIFFIO_T9P (io), B7 IO, DIFFIO_T11P (io), B10 IO, DIFFIO_T20P (io), B11 IO, DIFFIO_T25P (io), B12 IO, DIFFIO_T26N (io), B13 IO, DIFFIO_T29N (io), B14 IO, PLL2_CLKOUTp (io), B16 IO, DIFFIO_R15N, C3 IO, PLL3_CLKOUTn (io), C6 IO, VREFB8N0 (io), C8 IO, DIFFIO_T13P (io), C9 IO, DIFFIO_T19N (io), C11 IO, VREFB7N0 (io), C14 IO, DIFFIO_T32N (io), C15 IO, DIFFIO_R2P, C16 IO, DIFFIO_R2N, D3 IO, PLL3_CLKOUTp (io), D5 IO (io), D6 IO, DIFFIO_T4N (io), D8 IO, DQ3T (io), D9 IO, DIFFIO_T19P (io), D11 IO, DIFFIO_T30N (io), D12 IO, DIFFIO_T30P (io), D14 IO, DIFFIO_T32P (io), D15 IO, DIFFIO_R7P, D16 IO, DIFFIO_R7N, E6 IO, DIFFIO_T6P (io), E7 IO, DATA5 (io), E8 IO, DIFFIO_T12N (io), E9 IO, DIFFIO_T17P (io), E10 IO, RDN4 (io), E11 IO, RUP4 (io), F8 IO, DIFFIO_T12P (io), F9 IO, DIFFIO_T21P (io), F13 IO, VREFB6N1, F14 IO, VREFB6N0, F15 IO, DIFFIO_R16P, F16 IO, DIFFIO_R16N, G11 IO, DIFFIO_R3P, G15 IO, DIFFIO_R17P, G16 IO, DIFFIO_R17N, J12 IO, DFFIO_R19P, J13 IO, DQ1R, J14 IO, DFFIO_R19N, J15 IO, DFFIO_R21P, J16 IO, DFFIO_R21N, K12 IO, DIFFIO_R35P, K15 IO, DFFIO_R22P, K16 IO, DFFIO_R22N, L13 IO, DIFFIO_R26N, L14 IO, VREFB5N1, L15 IO, VREFB5N0, L16 IO, DIFFIO_R26P, N14 IO, RUP3, N15 IO, DIFFIO_R31P, N16 IO, DIFFIO_R31N, P15 IO, RDN3, P16 IO, DIFFIO_R34N, R16 IO, DIFFIO_R34P
part C pins: A8 CLK10, DIFFCLK_4N (in), A9 CLK8, DIFFCLK_5N (in), B8 CLK11, DIFFCLK_4P (in), B9 CLK9, DIFFCLK_5P (in), E1 CLK1, DIFFCLK_0n (in), E15 CLK4, DIFFCLK_2P (in), E16 CLK5, DIFFCLK_2N (in), M1 CLK3, DIFFCLK_1N (in), M2 CLK2, DIFFCLK_1p (in), M15 CLK6, DIFFCLK_3P (in), M16 CLK7, DIFFCLK_3N (in), R8 CLK15, DIFFCLK_6P (in), R9 CLK13, DIFFCLK_7P (in), T8 CLK14, DIFFCLK_6N (in), T9 CLK12, DIFFCLK_7N (in)
part D pins: C1 ASDO, D2 nCSO, F4 nSTATUS, G12 MSEL2 (in), H1 DCLK, H2 DATA0, H3 TCK (in), H4 TDI (in), H5 nCONFIG, H12 MSEL1 (in), H13 MSEL0 (in), H14 CONF_DONE, J3 nCE, J4 TDO (in), J5 TMS (in)
part E pins: A1 VCCIO8, A16 VCCIO7, B2 GND, B15 GND, C4 VCCIO8, C5 GND, C7 VCCIO8, C10 VCCIO7, C12 GND, C13 VCCIO7, D4 VCCD_PLL3, D7 GND, D10 GND, D13 VCCD_PLL2, E2 GND, E3 VCCIO1, E4 GND, E5 GNDA3, E12 GNDA2, E13 GND, E14 VCCIO6, F5 VCCA3, F6 GND, F7 VCCINT, F10 GND, F11 VCCINT, F12 VCCA2, G3 VCCIO1, G4 GND, G6 VCCINT, G7 VCCINT, G8 VCCINT, G9 VCCINT, G10 VCCINT, G13 GND, G14 VCCIO6, H6 VCCINT, H7 GND, H8 GND, H9 GND, H10 GND, H11 VCCINT, H15 GND, H16 GND, J6 VCCINT, J7 GND, J8 GND, J9 GND, J10 GND, J11 GND, K3 VCCIO2, K4 GND, K7 VCCINT, K8 GND, K11 VCCINT, K13 GND, K14 VCCIO5, L5 VCCA1, L12 VCCA4, M3 VCCIO2, M4 GND, M5 GNDA1, M12 GNDA4, M13 GND, M14 VCCIO5, N4 VCCD_PLL1, N7 GND, N10 GND, N13 VCCD_PLL4, P4 VCCIO3, P5 GND, P7 VCCIO3, P10 VCCIO4, P12 GND, P13 VCCIO4, R2 GND, R15 GND, T1 VCCIO3, T16 VCCIO4
part A text: I; II; IV; III
part B text: V; VI; VII; VIII
part E text: Core; I; II; III; IV; V; VI; VII; VIII

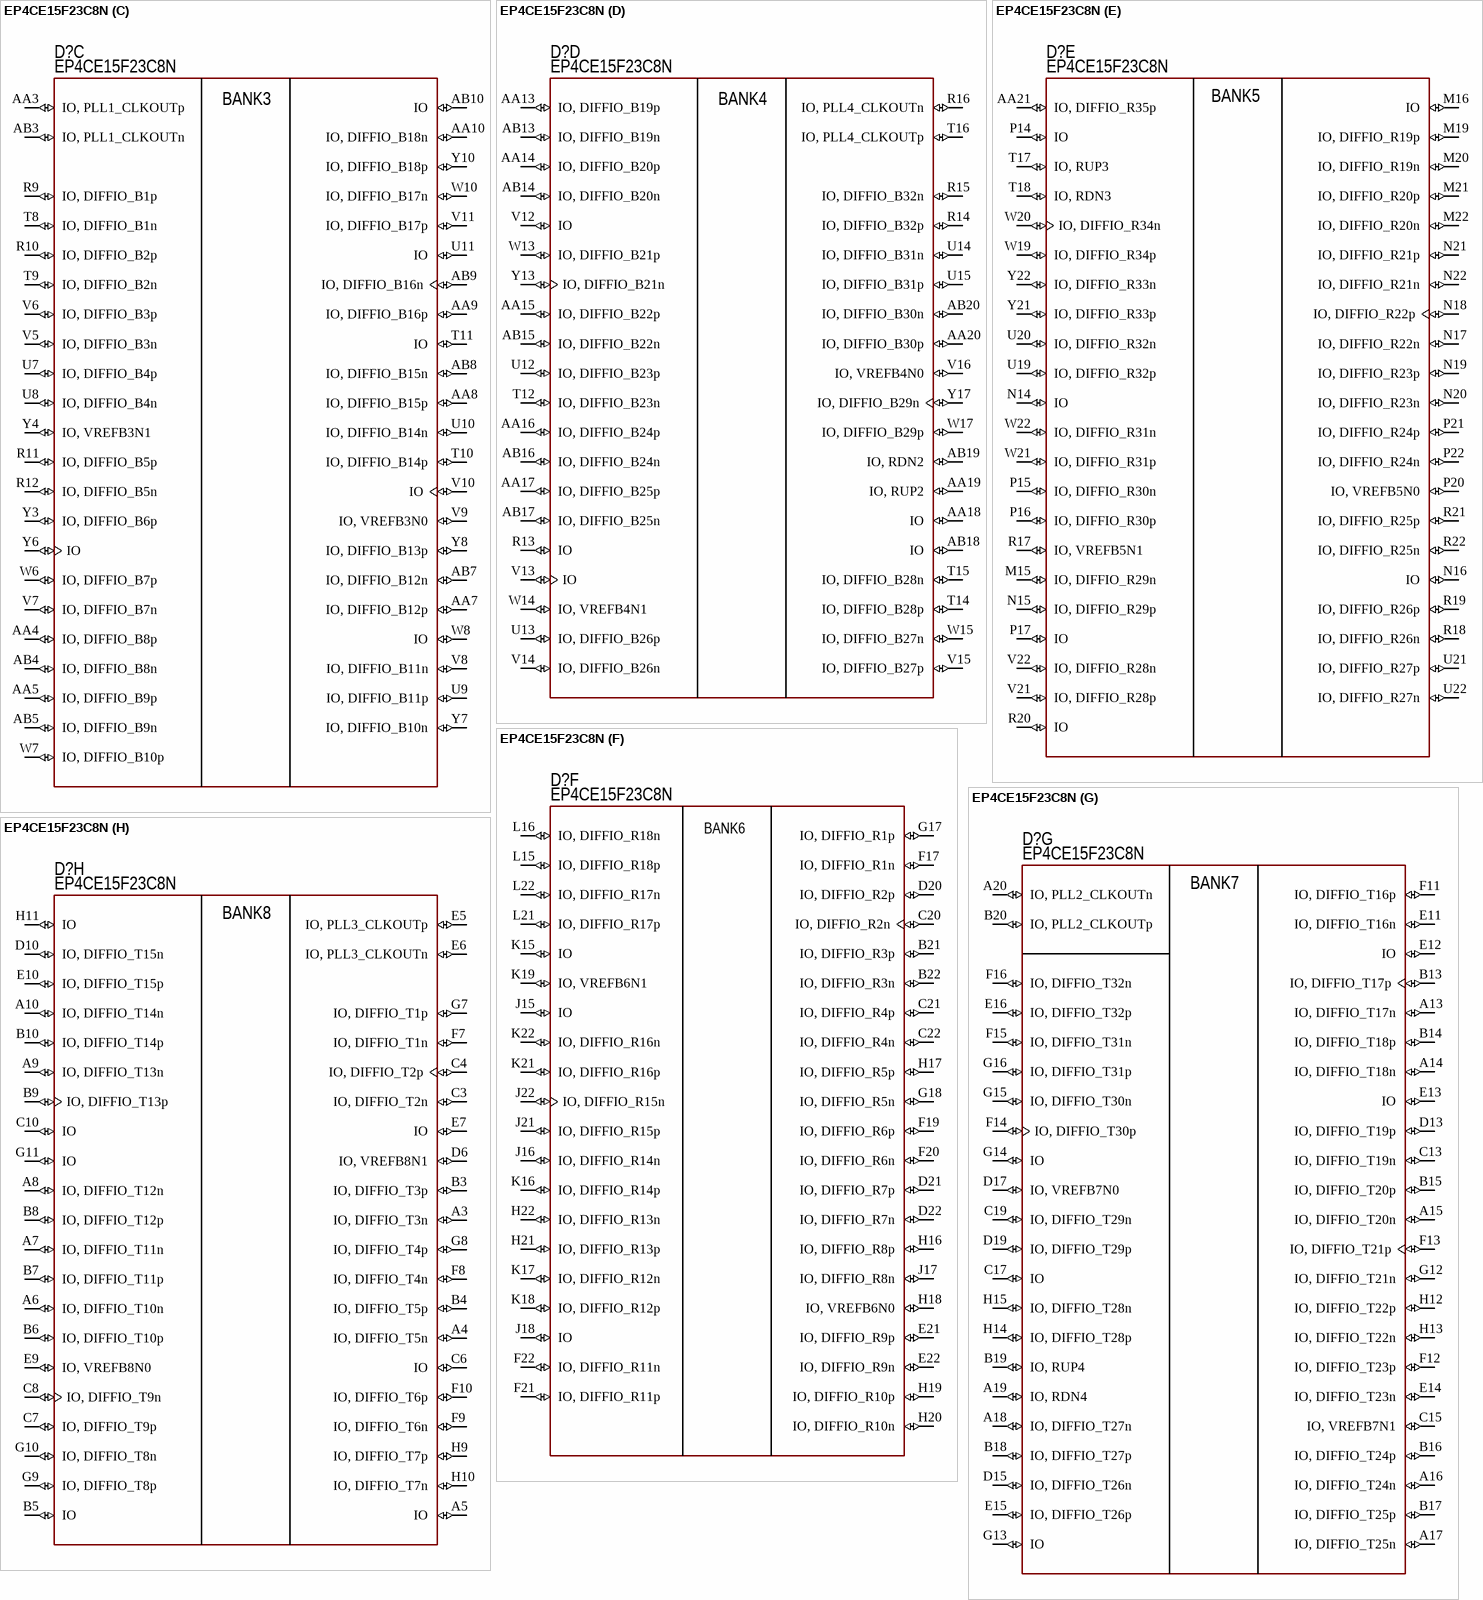
[diagram p6: symbol EP4CE15F23C8N]

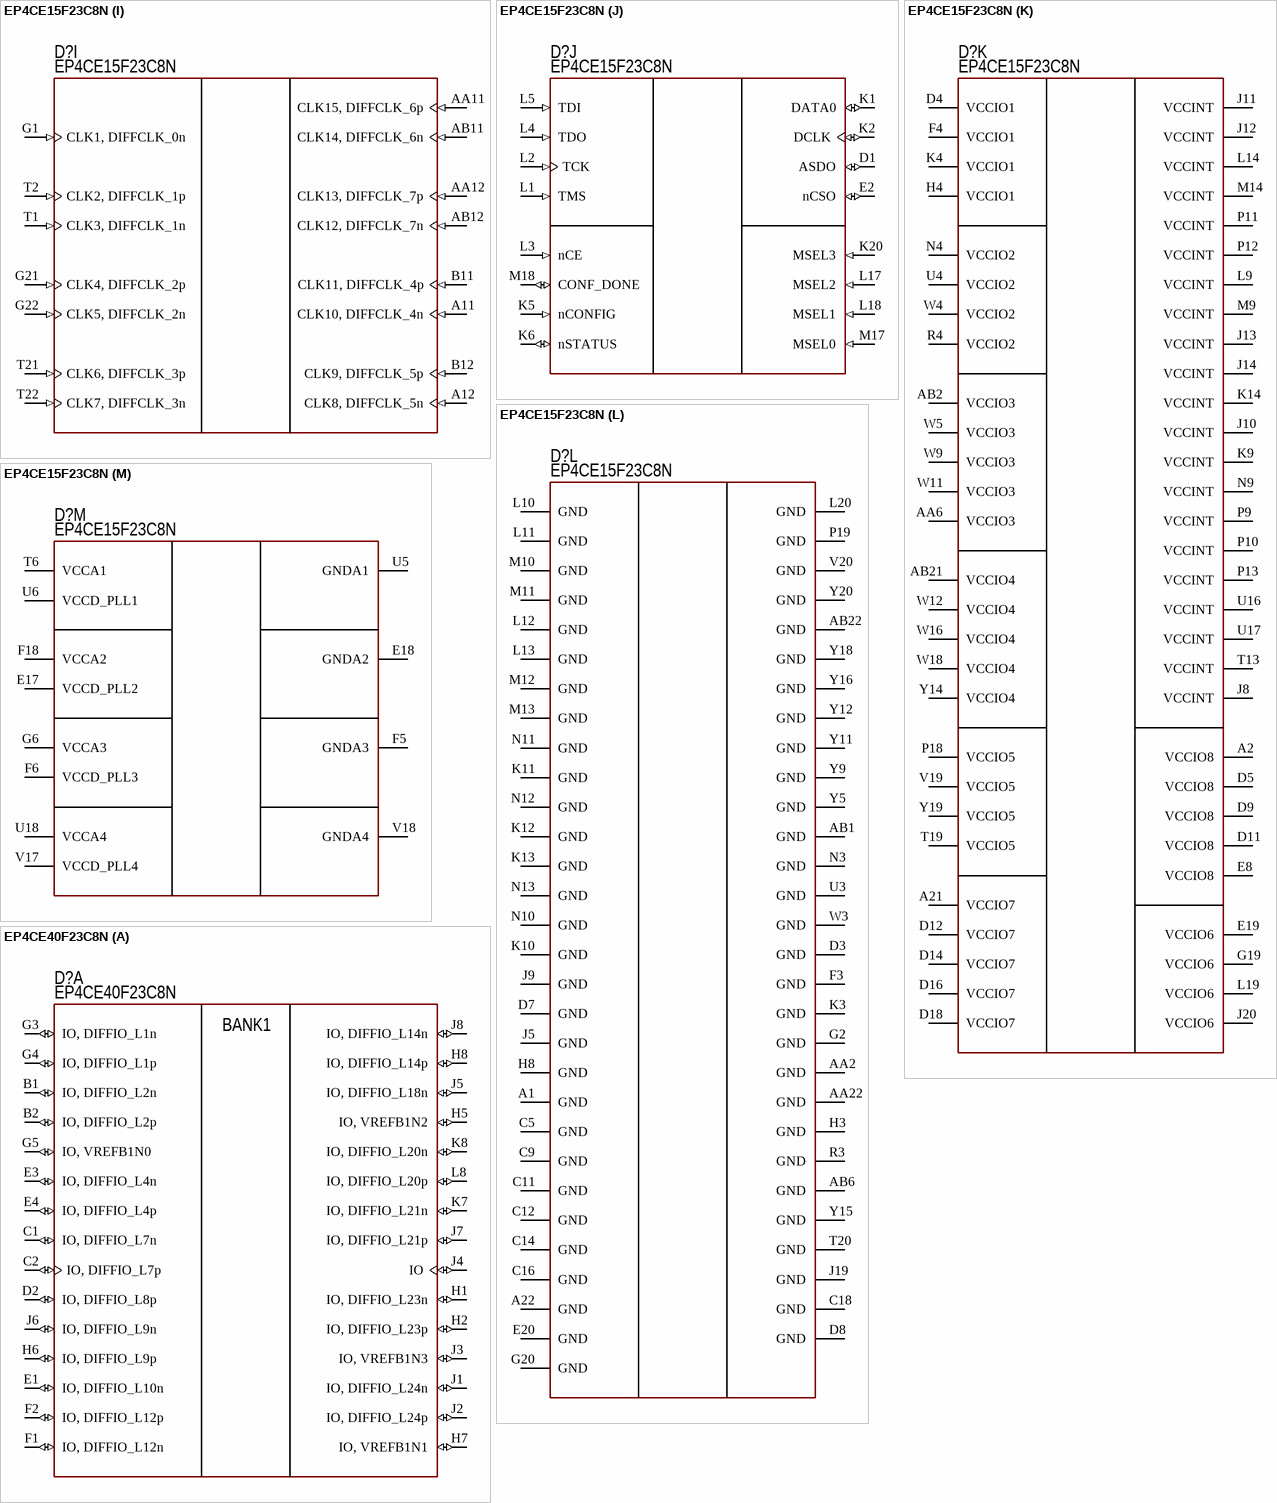
[diagram p7: symbols EP4CE15F23C8N to EP4CE40F23C8N]

## EP4CE15F23C8N
designator D?
FPGA; Manufacturer: Altera; HelpURL: https://www.digikey.com/products/en?keywords=EP4CE15F23C8N; ComponentKind: 484-FBGA; Model: EP4CE15F23C8N
footprint 484-FBGA (BGA, 484-Leads, Body 23x23mm, Pitch 1mm)
part A pins: B1 IO, DIFFIO_L1n (io), B2 IO, DIFFIO_L1p, (io), C1 IO, DIFFIO_L3n (io), C2 IO, DIFFIO_L3p (io), D2 IO, DIFFIO_L4p (io), E1 IO, DIFFIO_L6n (io), E3 IO, DIFFIO_L2n (io), E4 IO, DIFFIO_L2p (io), F1 IO, DIFFIO_L7n (io), F2 IO, DIFFIO_L7p (io), G3 IO, DIFFIO_L8n (io), G4 IO, DIFFIO_L8p (io), G5 IO (io), H1 IO, DIFFIO_L11n (io), H2 IO, DIFFIO_L11p (io), H5 IO (io), H6 IO, DIFFIO_L5p (io), H7 IO, VREFB1N0 (io), J1 IO, DIFFIO_L12n (io), J2 IO, DIFFIO_L12p (io), J3 IO, VREFB1N1 (io), J4 IO, DPCLK0 (io), J6 IO, DIFFIO_L5n (io), J7 IO, DIFFIO_L10p (io), K7 IO, DIFFIO_L10n (io), K8 IO, DIFFIO_L9n (io), L8 IO, DIFFIO_L9p (io)
part B pins: AA1 IO, DIFFIO_L27n (io), L6 IO, DIFFIO_L13p (io), L7 IO (io), M1 IO, DIFFIO_L14n (io), M2 IO, DIFFIO_L14p (io), M3 IO, DIFFIO_L15n (io), M4 IO, DIFFIO_L15p (io), M5 IO, VREFB2N0 (io), M6 IO, DIFFIO_L13n (io), M7 IO, DIFFIO_L22n (io), M8 IO, DIFFIO_L23p (io), N1 IO, DIFFIO_L16n (io), N2 IO, DIFFIO_L16p (io), N5 IO (io), N6 IO, DIFFIO_L22p (io), N7 IO, DIFFIO_L26p (io), N8 IO, DIFFIO_L23n (io), P1 IO, DIFFIO_L17n (io), P2 IO, DIFFIO_L17p (io), P3 IO, DIFFIO_L19n (io), P4 IO, DIFFIO_L19p (io), P5 IO (io), P6 IO, DIFFIO_L28p (io), P7 IO, DIFFIO_L26n (io), P8 IO, DIFFIO_L31p (io), R1 IO, DIFFIO_L18n (io), R2 IO, DIFFIO_L18p (io), R5 IO, DIFFIO_L28n (io), R6 IO, DIFFIO_L29n (io), R7 IO, DIFFIO_L30p (io), R8 IO, DIFFIO_L31n (io), T3 IO, VREFB2N1 (io), T4 IO (io), T5 IO, DIFFIO_L29p (io), T7 IO, DIFFIO_L30n (io), U1 IO, DIFFIO_L20n (io), U2 IO, DIFFIO_L20p (io), V1 IO, DIFFIO_L21n (io), V2 IO, DIFFIO_L21p (io), V3 IO, RDN1 (io), V4 IO, RUP1 (io), W1 IO, DIFFIO_L24n (io), W2 IO, DIFFIO_L24p (io), Y1 IO, DIFFIO_L25n (io), Y2 IO, DIFFIO_L25p (io)
part C pins: AA3 IO, PLL1_CLKOUTp (io), AA4 IO, DIFFIO_B8p (io), AA5 IO, DIFFIO_B9p (io), AA7 IO, DIFFIO_B12p (io), AA8 IO, DIFFIO_B15p (io), AA9 IO, DIFFIO_B16p (io), AA10 IO, DIFFIO_B18n (io), AB3 IO, PLL1_CLKOUTn (io), AB4 IO, DIFFIO_B8n (io), AB5 IO, DIFFIO_B9n (io), AB7 IO, DIFFIO_B12n (io), AB8 IO, DIFFIO_B15n (io), AB9 IO, DIFFIO_B16n (io), AB10 IO (io), R9 IO, DIFFIO_B1p (io), R10 IO, DIFFIO_B2p (io), R11 IO, DIFFIO_B5p (io), R12 IO, DIFFIO_B5n (io), T8 IO, DIFFIO_B1n (io), T9 IO, DIFFIO_B2n (io), T10 IO, DIFFIO_B14p (io), T11 IO (io), U7 IO, DIFFIO_B4p (io), U8 IO, DIFFIO_B4n (io), U9 IO, DIFFIO_B11p (io), U10 IO, DIFFIO_B14n (io), U11 IO (io), V5 IO, DIFFIO_B3n (io), V6 IO, DIFFIO_B3p (io), V7 IO, DIFFIO_B7n (io), V8 IO, DIFFIO_B11n (io), V9 IO, VREFB3N0 (io), V10 IO (io), V11 IO, DIFFIO_B17p (io), W6 IO, DIFFIO_B7p (io), W7 IO, DIFFIO_B10p (io), W8 IO (io), W10 IO, DIFFIO_B17n (io), Y3 IO, DIFFIO_B6p (io), Y4 IO, VREFB3N1 (io), Y6 IO (io), Y7 IO, DIFFIO_B10n (io), Y8 IO, DIFFIO_B13p (io), Y10 IO, DIFFIO_B18p (io)
part D pins: AA13 IO, DIFFIO_B19p (io), AA14 IO, DIFFIO_B20p (io), AA15 IO, DIFFIO_B22p (io), AA16 IO, DIFFIO_B24p (io), AA17 IO, DIFFIO_B25p (io), AA18 IO (io), AA19 IO, RUP2 (io), AA20 IO, DIFFIO_B30p (io), AB13 IO, DIFFIO_B19n (io), AB14 IO, DIFFIO_B20n (io), AB15 IO, DIFFIO_B22n (io), AB16 IO, DIFFIO_B24n (io), AB17 IO, DIFFIO_B25n (io), AB18 IO (io), AB19 IO, RDN2 (io), AB20 IO, DIFFIO_B30n (io), R13 IO (io), R14 IO, DIFFIO_B32p (io), R15 IO, DIFFIO_B32n (io), R16 IO, PLL4_CLKOUTn (io), T12 IO, DIFFIO_B23n (io), T14 IO, DIFFIO_B28p (io), T15 IO, DIFFIO_B28n (io), T16 IO, PLL4_CLKOUTp (io), U12 IO, DIFFIO_B23p (io), U13 IO, DIFFIO_B26p (io), U14 IO, DIFFIO_B31n (io), U15 IO, DIFFIO_B31p (io), V12 IO (io), V13 IO (io), V14 IO, DIFFIO_B26n (io), V15 IO, DIFFIO_B27p (io), V16 IO, VREFB4N0 (io), W13 IO, DIFFIO_B21p (io), W14 IO, VREFB4N1 (io), W15 IO, DIFFIO_B27n (io), W17 IO, DIFFIO_B29p (io), Y13 IO, DIFFIO_B21n (io), Y17 IO, DIFFIO_B29n (io)
part E pins: AA21 IO, DIFFIO_R35p (io), M15 IO, DIFFIO_R29n (io), M16 IO (io), M19 IO, DIFFIO_R19p (io), M20 IO, DIFFIO_R19n (io), M21 IO, DIFFIO_R20p (io), M22 IO, DIFFIO_R20n (io), N14 IO (io), N15 IO, DIFFIO_R29p (io), N16 IO (io), N17 IO, DIFFIO_R22n (io), N18 IO, DIFFIO_R22p (io), N19 IO, DIFFIO_R23p (io), N20 IO, DIFFIO_R23n (io), N21 IO, DIFFIO_R21p (io), N22 IO, DIFFIO_R21n (io), P14 IO (io), P15 IO, DIFFIO_R30n (io), P16 IO, DIFFIO_R30p (io), P17 IO (io), P20 IO, VREFB5N0 (io), P21 IO, DIFFIO_R24p (io), P22 IO, DIFFIO_R24n (io), R17 IO, VREFB5N1 (io), R18 IO, DIFFIO_R26n (io), R19 IO, DIFFIO_R26p (io), R20 IO (io), R21 IO, DIFFIO_R25p (io), R22 IO, DIFFIO_R25n (io), T17 IO, RUP3 (io), T18 IO, RDN3 (io), U19 IO, DIFFIO_R32p (io), U20 IO, DIFFIO_R32n (io), U21 IO, DIFFIO_R27p (io), U22 IO, DIFFIO_R27n (io), V21 IO, DIFFIO_R28p (io), V22 IO, DIFFIO_R28n (io), W19 IO, DIFFIO_R34p (io), W20 IO, DIFFIO_R34n (io), W21 IO, DIFFIO_R31p (io), W22 IO, DIFFIO_R31n (io), Y21 IO, DIFFIO_R33p (io), Y22 IO, DIFFIO_R33n (io)
part F pins: B21 IO, DIFFIO_R3p (io), B22 IO, DIFFIO_R3n (io), C20 IO, DIFFIO_R2n (io), C21 IO, DIFFIO_R4p (io), C22 IO, DIFFIO_R4n (io), D20 IO, DIFFIO_R2p (io), D21 IO, DIFFIO_R7p (io), D22 IO, DIFFIO_R7n (io), E21 IO, DIFFIO_R9p (io), E22 IO, DIFFIO_R9n (io), F17 IO, DIFFIO_R1n (io), F19 IO, DIFFIO_R6p (io), F20 IO, DIFFIO_R6n (io), F21 IO, DIFFIO_R11p (io), F22 IO, DIFFIO_R11n (io), G17 IO, DIFFIO_R1p (io), G18 IO, DIFFIO_R5n (io), H16 IO, DIFFIO_R8p (io), H17 IO, DIFFIO_R5p (io), H18 IO, VREFB6N0 (io), H19 IO, DIFFIO_R10p (io), H20 IO, DIFFIO_R10n (io), H21 IO, DIFFIO_R13p (io), H22 IO, DIFFIO_R13n (io), J15 IO (io), J16 IO, DIFFIO_R14n (io), J17 IO, DIFFIO_R8n (io), J18 IO (io), J21 IO, DIFFIO_R15p (io), J22 IO, DIFFIO_R15n (io), K15 IO (io), K16 IO, DIFFIO_R14p (io), K17 IO, DIFFIO_R12n (io), K18 IO, DIFFIO_R12p (io), K19 IO, VREFB6N1 (io), K21 IO, DIFFIO_R16p (io), K22 IO, DIFFIO_R16n (io), L15 IO, DIFFIO_R18p (io), L16 IO, DIFFIO_R18n (io), L21 IO, DIFFIO_R17p (io), L22 IO, DIFFIO_R17n (io)
part G pins: A13 IO, DIFFIO_T17n (io), A14 IO, DIFFIO_T18n (io), A15 IO, DIFFIO_T20n (io), A16 IO, DIFFIO_T24n (io), A17 IO, DIFFIO_T25n (io), A18 IO, DIFFIO_T27n (io), A19 IO, RDN4 (io), A20 IO, PLL2_CLKOUTn (io), B13 IO, DIFFIO_T17p (io), B14 IO, DIFFIO_T18p (io), B15 IO, DIFFIO_T20p (io), B16 IO, DIFFIO_T24p (io), B17 IO, DIFFIO_T25p (io), B18 IO, DIFFIO_T27p (io), B19 IO, RUP4 (io), B20 IO, PLL2_CLKOUTp (io), C13 IO, DIFFIO_T19n (io), C15 IO, VREFB7N1 (io), C17 IO (io), C19 IO, DIFFIO_T29n (io), D13 IO, DIFFIO_T19p (io), D15 IO, DIFFIO_T26n (io), D17 IO, VREFB7N0 (io), D19 IO, DIFFIO_T29p (io), E11 IO, DIFFIO_T16n (io), E12 IO (io), E13 IO (io), E14 IO, DIFFIO_T23n (io), E15 IO, DIFFIO_T26p (io), E16 IO, DIFFIO_T32p (io), F11 IO, DIFFIO_T16p (io), F12 IO, DIFFIO_T23p (io), F13 IO, DIFFIO_T21p (io), F14 IO, DIFFIO_T30p (io), F15 IO, DIFFIO_T31n (io), F16 IO, DIFFIO_T32n (io), G12 IO, DIFFIO_T21n (io), G13 IO (io), G14 IO (io), G15 IO, DIFFIO_T30n (io), G16 IO, DIFFIO_T31p (io), H12 IO, DIFFIO_T22p (io), H13 IO, DIFFIO_T22n (io), H14 IO, DIFFIO_T28p (io), H15 IO, DIFFIO_T28n (io)
part H pins: A3 IO, DIFFIO_T3n (io), A4 IO, DIFFIO_T5n (io), A5 IO (io), A6 IO, DIFFIO_T10n (io), A7 IO, DIFFIO_T11n (io), A8 IO, DIFFIO_T12n (io), A9 IO, DIFFIO_T13n (io), A10 IO, DIFFIO_T14n (io), B3 IO, DIFFIO_T3p (io), B4 IO, DIFFIO_T5p (io), B5 IO (io), B6 IO, DIFFIO_T10p (io), B7 IO, DIFFIO_T11p (io), B8 IO, DIFFIO_T12p (io), B9 IO, DIFFIO_T13p (io), B10 IO, DIFFIO_T14p (io), C3 IO, DIFFIO_T2n (io), C4 IO, DIFFIO_T2p (io), C6 IO (io), C7 IO, DIFFIO_T9p (io), C8 IO, DIFFIO_T9n (io), C10 IO (io), D6 IO, VREFB8N1 (io), D10 IO, DIFFIO_T15n (io), E5 IO, PLL3_CLKOUTp (io), E6 IO, PLL3_CLKOUTn (io), E7 IO (io), E9 IO, VREFB8N0 (io), E10 IO, DIFFIO_T15p (io), F7 IO, DIFFIO_T1n (io), F8 IO, DIFFIO_T4n (io), F9 IO, DIFFIO_T6n (io), F10 IO, DIFFIO_T6p (io), G7 IO, DIFFIO_T1p (io), G8 IO, DIFFIO_T4p (io), G9 IO, DIFFIO_T8p (io), G10 IO, DIFFIO_T8n (io), G11 IO (io), H9 IO, DIFFIO_T7p (io), H10 IO, DIFFIO_T7n (io), H11 IO (io)
part I pins: A11 CLK10, DIFFCLK_4n (in), A12 CLK8, DIFFCLK_5n (in), AA11 CLK15, DIFFCLK_6p (in), AA12 CLK13, DIFFCLK_7p (in), AB11 CLK14, DIFFCLK_6n (in), AB12 CLK12, DIFFCLK_7n (in), B11 CLK11, DIFFCLK_4p (in), B12 CLK9, DIFFCLK_5p (in), G1 CLK1, DIFFCLK_0n (in), G21 CLK4, DIFFCLK_2p (in), G22 CLK5, DIFFCLK_2n (in), T1 CLK3, DIFFCLK_1n (in), T2 CLK2, DIFFCLK_1p (in), T21 CLK6, DIFFCLK_3p (in), T22 CLK7, DIFFCLK_3n (in)
part J pins: D1 ASDO (io), E2 nCSO (io), K1 DATA0 (io), K2 DCLK (io), K5 nCONFIG (in), K6 nSTATUS (io), K20 MSEL3 (in), L1 TMS (in), L2 TCK (in), L3 nCE (in), L4 TDO (in), L5 TDI (in), L17 MSEL2 (in), L18 MSEL1 (in), M17 MSEL0 (in), M18 CONF_DONE (io)
part K pins: A2 VCCIO8 (power), A21 VCCIO7 (power), AA6 VCCIO3 (power), AB2 VCCIO3 (power), AB21 VCCIO4 (power), D4 VCCIO1 (power), D5 VCCIO8 (power), D9 VCCIO8 (power), D11 VCCIO8 (power), D12 VCCIO7 (power), D14 VCCIO7 (power), D16 VCCIO7 (power), D18 VCCIO7 (power), E8 VCCIO8 (power), E19 VCCIO6 (power), F4 VCCIO1 (power), G19 VCCIO6 (power), H4 VCCIO1 (power), J8 VCCINT (power), J10 VCCINT (power), J11 VCCINT (power), J12 VCCINT (power), J13 VCCINT (power), J14 VCCINT (power), J20 VCCIO6 (power), K4 VCCIO1 (power), K9 VCCINT (power), K14 VCCINT (power), L9 VCCINT (power), L14 VCCINT (power), L19 VCCIO6 (power), M9 VCCINT (power), M14 VCCINT (power), N4 VCCIO2 (power), N9 VCCINT (power), P9 VCCINT (power), P10 VCCINT (power), P11 VCCINT (power), P12 VCCINT (power), P13 VCCINT (power), P18 VCCIO5 (power), R4 VCCIO2 (power), T13 VCCINT (power), T19 VCCIO5 (power), U4 VCCIO2 (power), U16 VCCINT (power), U17 VCCINT (power), V19 VCCIO5 (power), W4 VCCIO2 (power), W5 VCCIO3 (power), W9 VCCIO3 (power), W11 VCCIO3 (power), W12 VCCIO4 (power), W16 VCCIO4 (power), W18 VCCIO4 (power), Y14 VCCIO4 (power), Y19 VCCIO5 (power)
part L pins: A1 GND (power), A22 GND (power), AA2 GND (power), AA22 GND (power), AB1 GND (power), AB6 GND (power), AB22 GND (power), C5 GND (power), C9 GND (power), C11 GND (power), C12 GND (power), C14 GND (power), C16 GND (power), C18 GND (power), D3 GND (power), D7 GND (power), D8 GND (power), E20 GND (power), F3 GND (power), G2 GND (power), G20 GND (power), H3 GND (power), H8 GND (power), J5 GND (power), J9 GND (power), J19 GND (power), K3 GND (power), K10 GND (power), K11 GND (power), K12 GND (power), K13 GND (power), L10 GND (power), L11 GND (power), L12 GND (power), L13 GND (power), L20 GND (power), M10 GND (power), M11 GND (power), M12 GND (power), M13 GND (power), N3 GND (power), N10 GND (power), N11 GND (power), N12 GND (power), N13 GND (power), P19 GND (power), R3 GND (power), T20 GND (power), U3 GND (power), V20 GND (power), W3 GND (power), Y5 GND (power), Y9 GND (power), Y11 GND (power), Y12 GND (power), Y15 GND (power), Y16 GND (power), Y18 GND (power), Y20 GND (power)
part M pins: E17 VCCD_PLL2 (power), E18 GNDA2 (power), F5 GNDA3 (power), F6 VCCD_PLL3 (power), F18 VCCA2 (power), G6 VCCA3 (power), T6 VCCA1 (power), U5 GNDA1 (power), U6 VCCD_PLL1 (power), U18 VCCA4 (power), V17 VCCD_PLL4 (power), V18 GNDA4 (power)
part A text: BANK1
part B text: BANK2
part C text: BANK3
part D text: BANK4
part E text: BANK5
part F text: BANK6
part G text: BANK7
part H text: BANK8

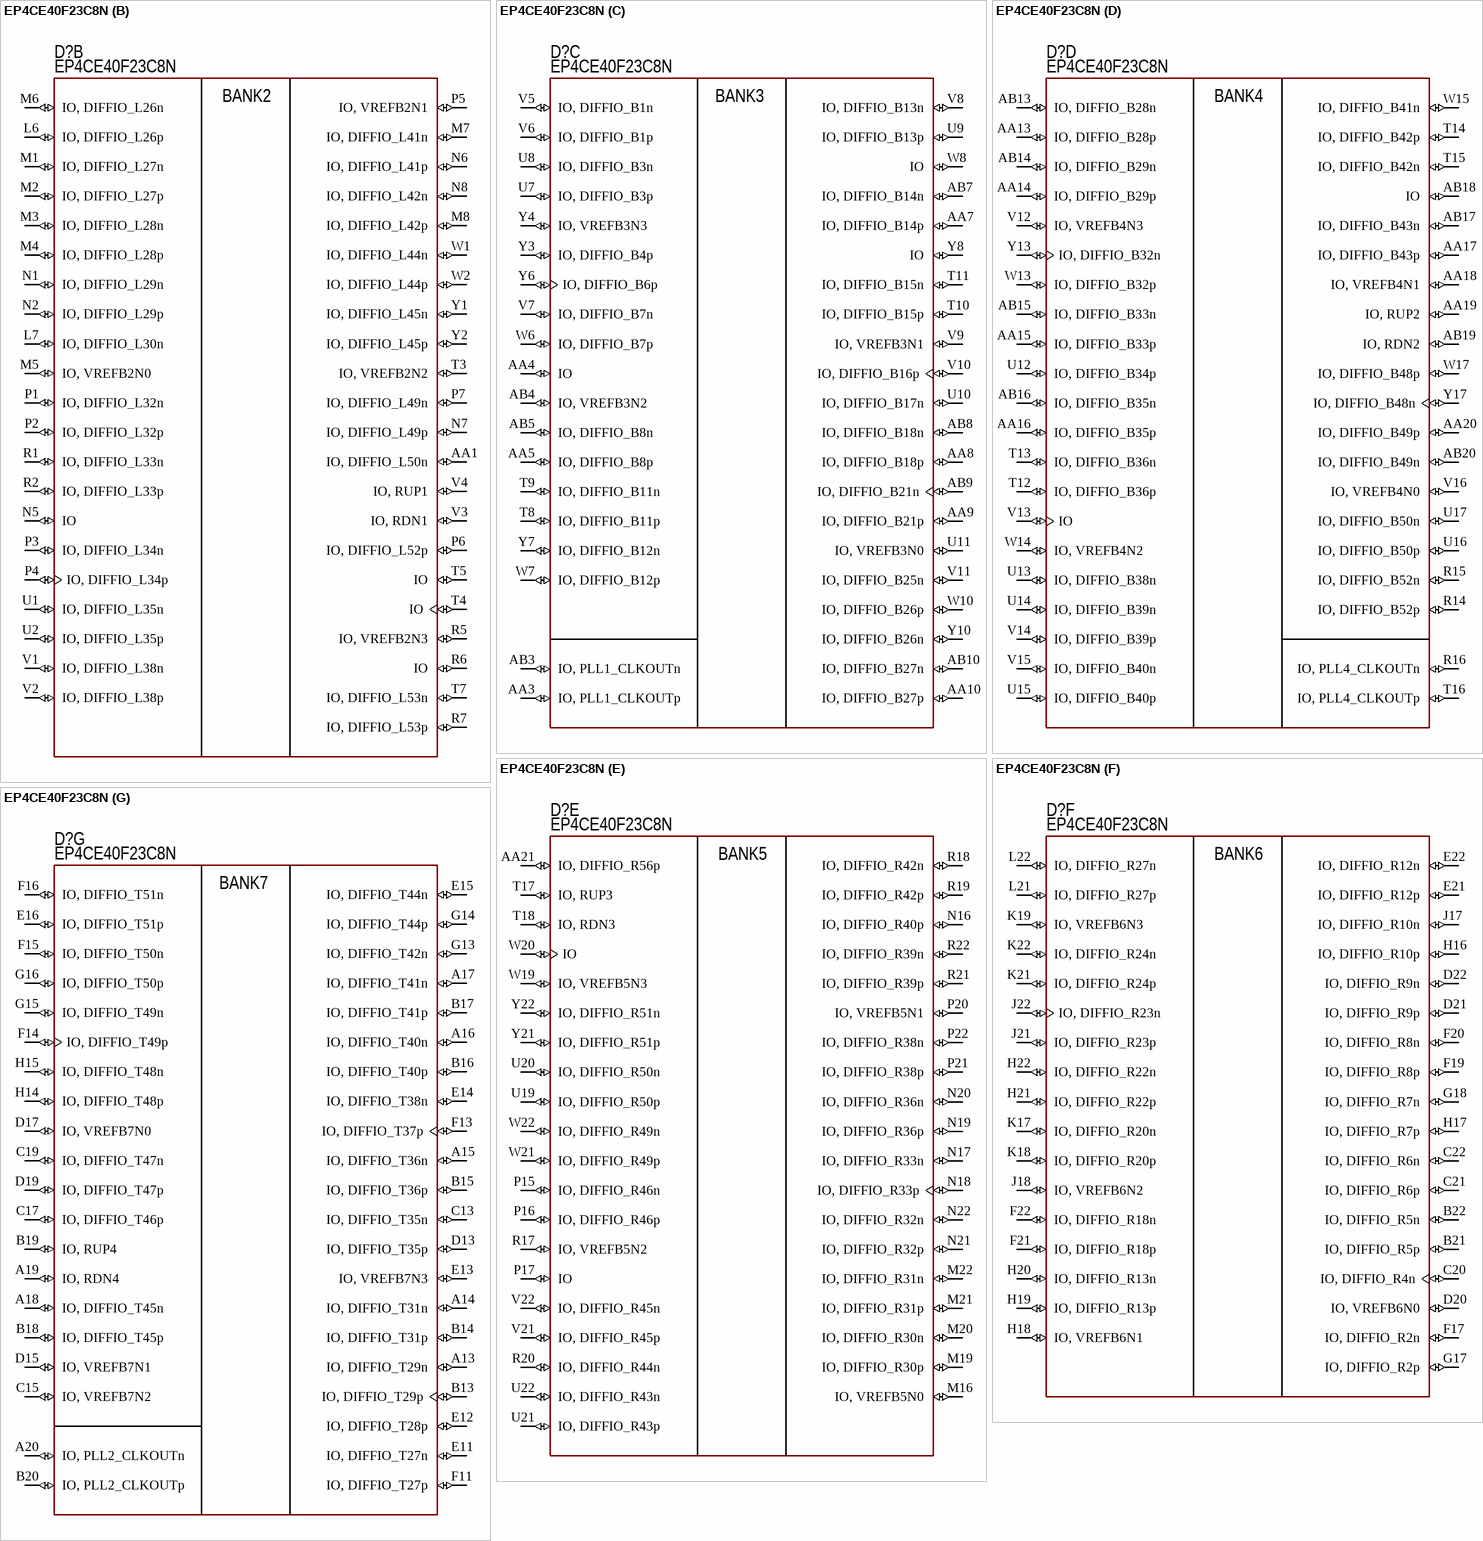
[diagram p8: symbol EP4CE40F23C8N]

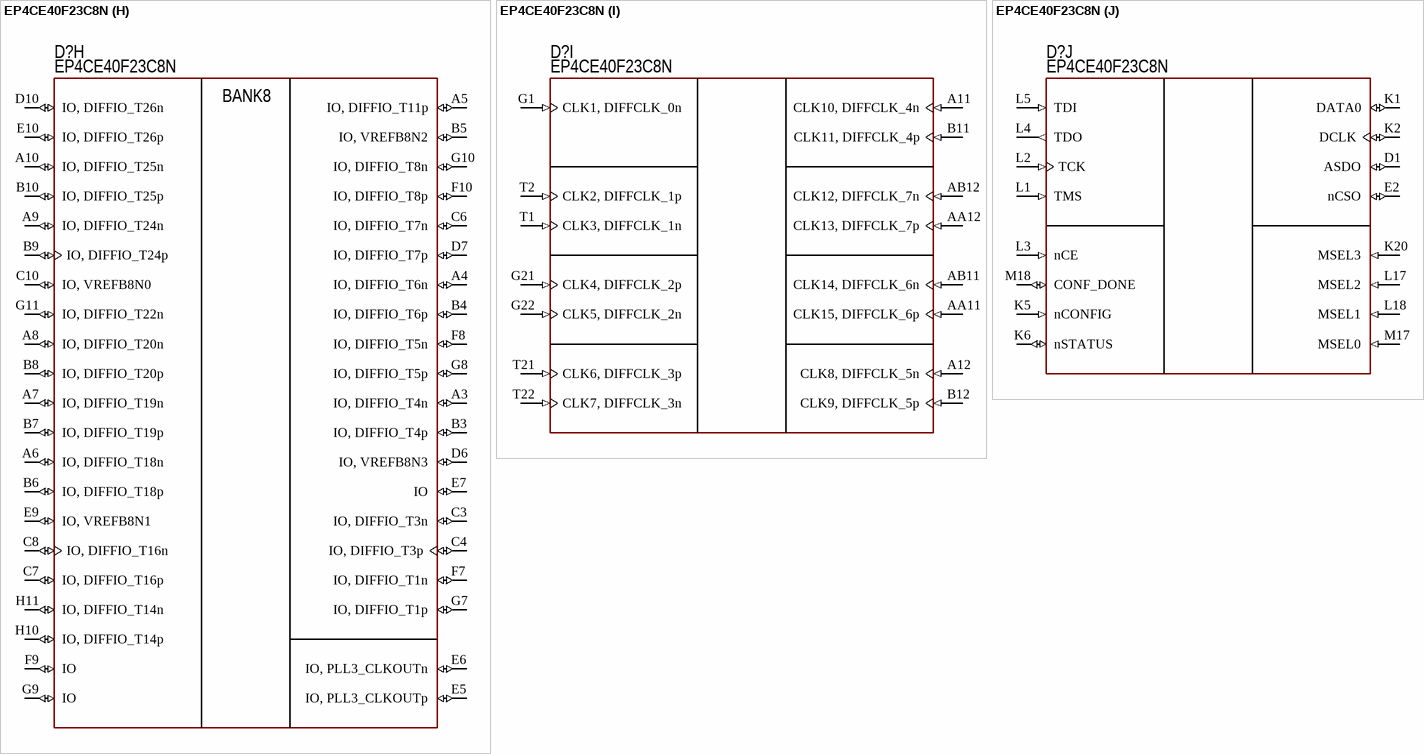
[diagram p9: symbol EP4CE40F23C8N]

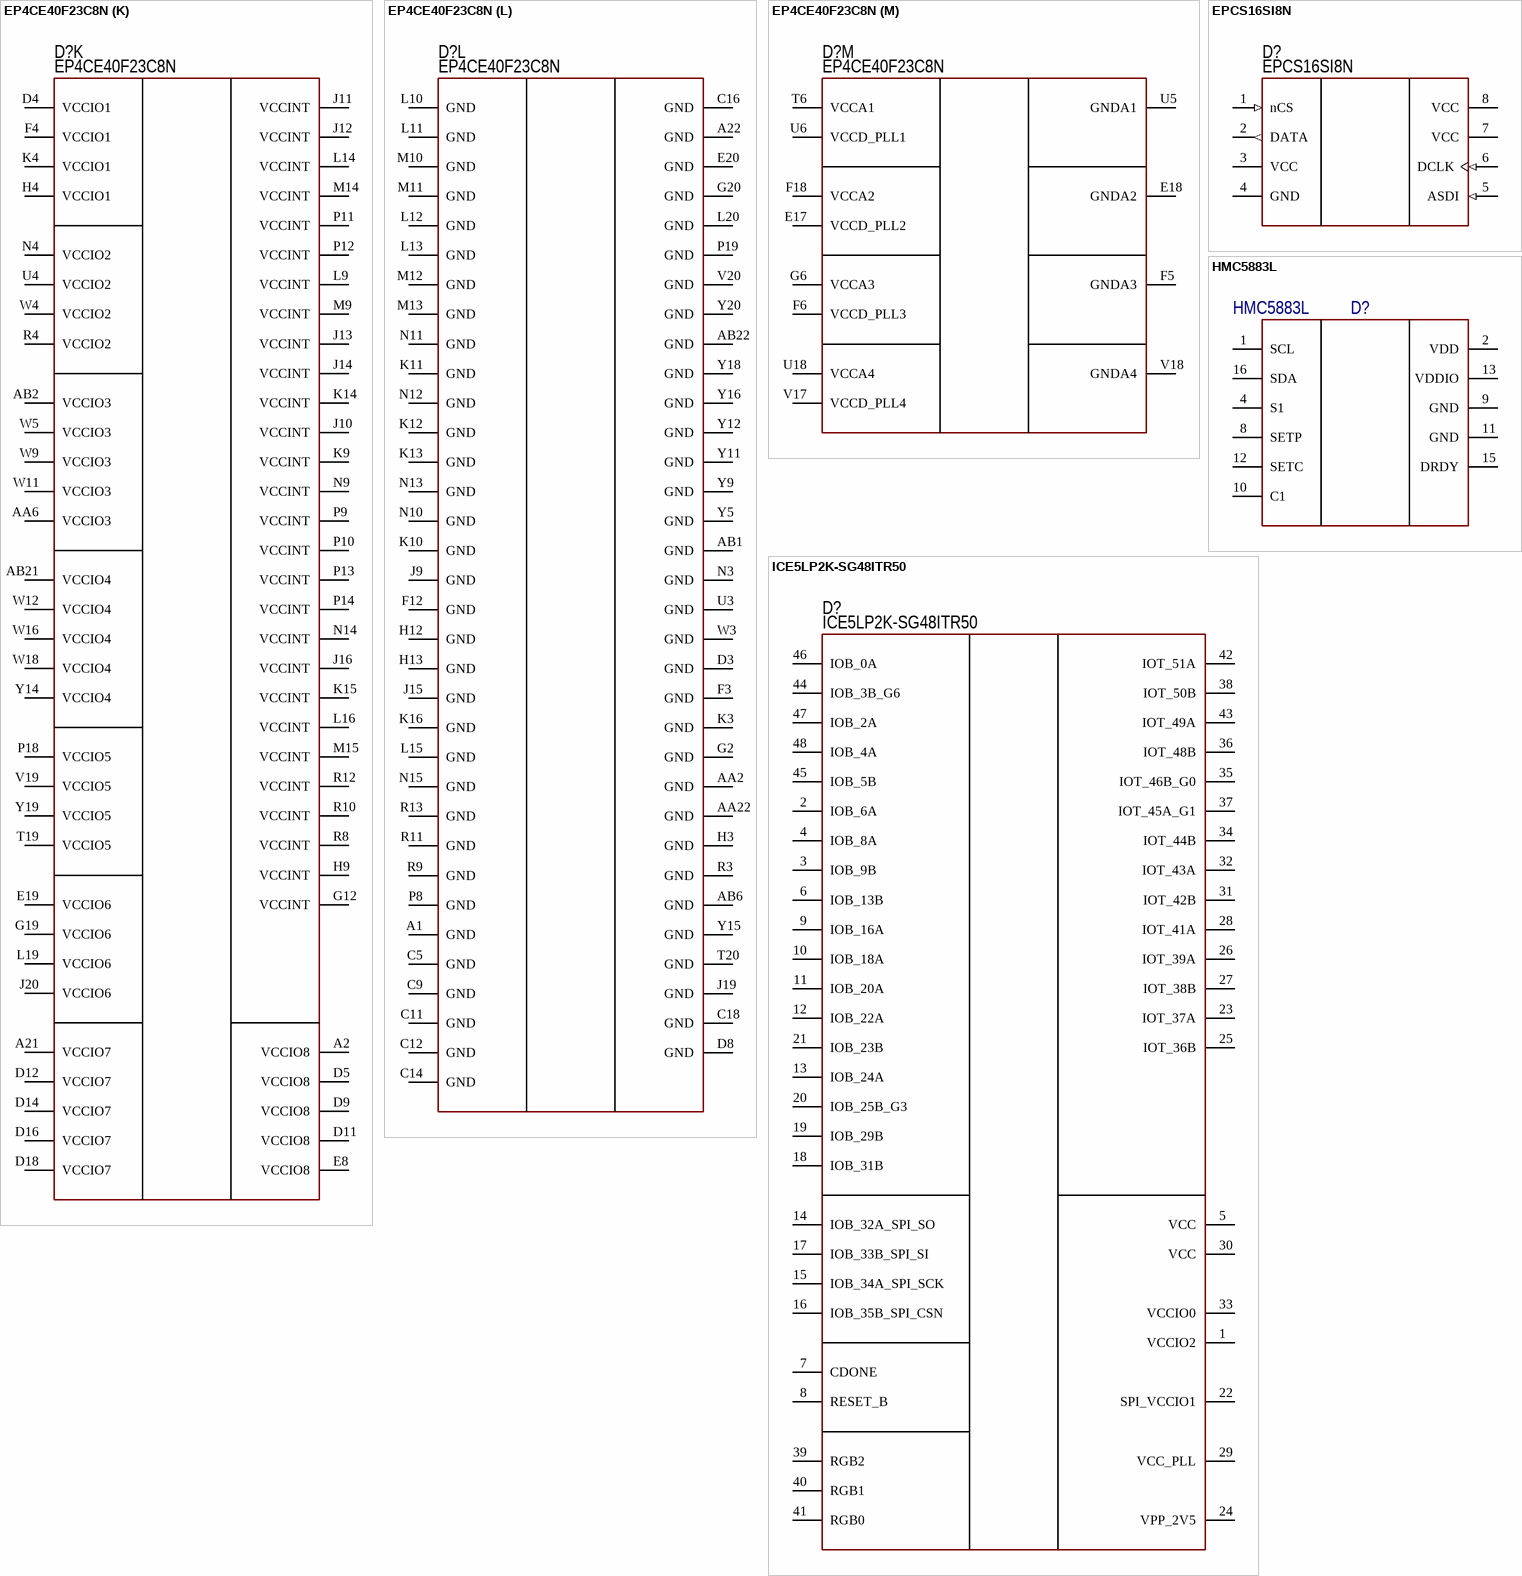
[diagram p10: symbols EP4CE40F23C8N to ICE5LP2K-SG48ITR50]

## EP4CE40F23C8N
designator D?
FPGA; Manufacturer: Altera; Datasheet: https://www.digikey.com/products/en?keywords=EP4CE40F23C8N; Model: EP4CE40F23C8N; ComponentKind: 484-FBGA
footprint 484-FBGA (BGA, 484-Leads, Body 23x23mm, Pitch 1mm)
part A pins: B1 IO, DIFFIO_L2n (io), B2 IO, DIFFIO_L2p (io), C1 IO, DIFFIO_L7n (io), C2 IO, DIFFIO_L7p (io), D2 IO, DIFFIO_L8p (io), E1 IO, DIFFIO_L10n (io), E3 IO, DIFFIO_L4n (io), E4 IO, DIFFIO_L4p (io), F1 IO, DIFFIO_L12n (io), F2 IO, DIFFIO_L12p (io), G3 IO, DIFFIO_L1n (io), G4 IO, DIFFIO_L1p (io), G5 IO, VREFB1N0 (io), H1 IO, DIFFIO_L23n (io), H2 IO, DIFFIO_L23p (io), H5 IO, VREFB1N2 (io), H6 IO, DIFFIO_L9p (io), H7 IO, VREFB1N1 (io), H8 IO, DIFFIO_L14p (io), J1 IO, DIFFIO_L24n (io), J2 IO, DIFFIO_L24p (io), J3 IO, VREFB1N3 (io), J4 IO (io), J5 IO, DIFFIO_L18n (io), J6 IO, DIFFIO_L9n (io), J7 IO, DIFFIO_L21p (io), J8 IO, DIFFIO_L14n (io), K7 IO, DIFFIO_L21n (io), K8 IO, DIFFIO_L20n (io), L8 IO, DIFFIO_L20p (io)
part B pins: AA1 IO, DIFFIO_L50n (io), L6 IO, DIFFIO_L26p (io), L7 IO, DIFFIO_L30n (io), M1 IO, DIFFIO_L27n (io), M2 IO, DIFFIO_L27p (io), M3 IO, DIFFIO_L28n (io), M4 IO, DIFFIO_L28p (io), M5 IO, VREFB2N0 (io), M6 IO, DIFFIO_L26n (io), M7 IO, DIFFIO_L41n (io), M8 IO, DIFFIO_L42p (io), N1 IO, DIFFIO_L29n (io), N2 IO, DIFFIO_L29p (io), N5 IO (io), N6 IO, DIFFIO_L41p (io), N7 IO, DIFFIO_L49p (io), N8 IO, DIFFIO_L42n (io), P1 IO, DIFFIO_L32n (io), P2 IO, DIFFIO_L32p (io), P3 IO, DIFFIO_L34n (io), P4 IO, DIFFIO_L34p (io), P5 IO, VREFB2N1 (io), P6 IO, DIFFIO_L52p (io), P7 IO, DIFFIO_L49n (io), R1 IO, DIFFIO_L33n (io), R2 IO, DIFFIO_L33p (io), R5 IO, VREFB2N3 (io), R6 IO (io), R7 IO, DIFFIO_L53p (io), T3 IO, VREFB2N2 (io), T4 IO (io), T5 IO (io), T7 IO, DIFFIO_L53n (io), U1 IO, DIFFIO_L35n (io), U2 IO, DIFFIO_L35p (io), V1 IO, DIFFIO_L38n (io), V2 IO, DIFFIO_L38p (io), V3 IO, RDN1 (io), V4 IO, RUP1 (io), W1 IO, DIFFIO_L44n (io), W2 IO, DIFFIO_L44p (io), Y1 IO, DIFFIO_L45n (io), Y2 IO, DIFFIO_L45p (io)
part C pins: AA3 IO, PLL1_CLKOUTp (io), AA4 IO (io), AA5 IO, DIFFIO_B8p (io), AA7 IO, DIFFIO_B14p (io), AA8 IO, DIFFIO_B18p (io), AA9 IO, DIFFIO_B21p (io), AA10 IO, DIFFIO_B27p (io), AB3 IO, PLL1_CLKOUTn (io), AB4 IO, VREFB3N2 (io), AB5 IO, DIFFIO_B8n (io), AB7 IO, DIFFIO_B14n (io), AB8 IO, DIFFIO_B18n (io), AB9 IO, DIFFIO_B21n (io), AB10 IO, DIFFIO_B27n (io), T8 IO, DIFFIO_B11p (io), T9 IO, DIFFIO_B11n (io), T10 IO, DIFFIO_B15p (io), T11 IO, DIFFIO_B15n (io), U7 IO, DIFFIO_B3p (io), U8 IO, DIFFIO_B3n (io), U9 IO, DIFFIO_B13p (io), U10 IO, DIFFIO_B17n (io), U11 IO, VREFB3N0 (io), V5 IO, DIFFIO_B1n (io), V6 IO, DIFFIO_B1p (io), V7 IO, DIFFIO_B7n (io), V8 IO, DIFFIO_B13n (io), V9 IO, VREFB3N1 (io), V10 IO, DIFFIO_B16p (io), V11 IO, DIFFIO_B25n (io), W6 IO, DIFFIO_B7p (io), W7 IO, DIFFIO_B12p (io), W8 IO (io), W10 IO, DIFFIO_B26p (io), Y3 IO, DIFFIO_B4p (io), Y4 IO, VREFB3N3 (io), Y6 IO, DIFFIO_B6p (io), Y7 IO, DIFFIO_B12n (io), Y8 IO (io), Y10 IO, DIFFIO_B26n (io)
part D pins: AA13 IO, DIFFIO_B28p (io), AA14 IO, DIFFIO_B29p (io), AA15 IO, DIFFIO_B33p (io), AA16 IO, DIFFIO_B35p (io), AA17 IO, DIFFIO_B43p (io), AA18 IO, VREFB4N1 (io), AA19 IO, RUP2 (io), AA20 IO, DIFFIO_B49p (io), AB13 IO, DIFFIO_B28n (io), AB14 IO, DIFFIO_B29n (io), AB15 IO, DIFFIO_B33n (io), AB16 IO, DIFFIO_B35n (io), AB17 IO, DIFFIO_B43n (io), AB18 IO (io), AB19 IO, RDN2 (io), AB20 IO, DIFFIO_B49n (io), R14 IO, DIFFIO_B52p (io), R15 IO, DIFFIO_B52n (io), R16 IO, PLL4_CLKOUTn (io), T12 IO, DIFFIO_B36p (io), T13 IO, DIFFIO_B36n (io), T14 IO, DIFFIO_B42p (io), T15 IO, DIFFIO_B42n (io), T16 IO, PLL4_CLKOUTp (io), U12 IO, DIFFIO_B34p (io), U13 IO, DIFFIO_B38n (io), U14 IO, DIFFIO_B39n (io), U15 IO, DIFFIO_B40p (io), U16 IO, DIFFIO_B50p (io), U17 IO, DIFFIO_B50n (io), V12 IO, VREFB4N3 (io), V13 IO (io), V14 IO, DIFFIO_B39p (io), V15 IO, DIFFIO_B40n (io), V16 IO, VREFB4N0 (io), W13 IO, DIFFIO_B32p (io), W14 IO, VREFB4N2 (io), W15 IO, DIFFIO_B41n (io), W17 IO, DIFFIO_B48p (io), Y13 IO, DIFFIO_B32n (io), Y17 IO, DIFFIO_B48n (io)
part E pins: AA21 IO, DIFFIO_R56p (io), M16 IO, VREFB5N0 (io), M19 IO, DIFFIO_R30p (io), M20 IO, DIFFIO_R30n (io), M21 IO, DIFFIO_R31p (io), M22 IO, DIFFIO_R31n (io), N16 IO, DIFFIO_R40p (io), N17 IO, DIFFIO_R33n (io), N18 IO, DIFFIO_R33p (io), N19 IO, DIFFIO_R36p (io), N20 IO, DIFFIO_R36n (io), N21 IO, DIFFIO_R32p (io), N22 IO, DIFFIO_R32n (io), P15 IO, DIFFIO_R46n (io), P16 IO, DIFFIO_R46p (io), P17 IO (io), P20 IO, VREFB5N1 (io), P21 IO, DIFFIO_R38p (io), P22 IO, DIFFIO_R38n (io), R17 IO, VREFB5N2 (io), R18 IO, DIFFIO_R42n (io), R19 IO, DIFFIO_R42p (io), R20 IO, DIFFIO_R44n (io), R21 IO, DIFFIO_R39p (io), R22 IO, DIFFIO_R39n (io), T17 IO, RUP3 (io), T18 IO, RDN3 (io), U19 IO, DIFFIO_R50p (io), U20 IO, DIFFIO_R50n (io), U21 IO, DIFFIO_R43p (io), U22 IO, DIFFIO_R43n (io), V21 IO, DIFFIO_R45p (io), V22 IO, DIFFIO_R45n (io), W19 IO, VREFB5N3 (io), W20 IO (io), W21 IO, DIFFIO_R49p (io), W22 IO, DIFFIO_R49n (io), Y21 IO, DIFFIO_R51p (io), Y22 IO, DIFFIO_R51n (io)
part F pins: B21 IO, DIFFIO_R5p (io), B22 IO, DIFFIO_R5n (io), C20 IO, DIFFIO_R4n (io), C21 IO, DIFFIO_R6p (io), C22 IO, DIFFIO_R6n (io), D20 IO, VREFB6N0 (io), D21 IO, DIFFIO_R9p (io), D22 IO, DIFFIO_R9n (io), E21 IO, DIFFIO_R12p (io), E22 IO, DIFFIO_R12n (io), F17 IO, DIFFIO_R2n (io), F19 IO, DIFFIO_R8p (io), F20 IO, DIFFIO_R8n (io), F21 IO, DIFFIO_R18p (io), F22 IO, DIFFIO_R18n (io), G17 IO, DIFFIO_R2p (io), G18 IO, DIFFIO_R7n (io), H16 IO, DIFFIO_R10p (io), H17 IO, DIFFIO_R7p (io), H18 IO, VREFB6N1 (io), H19 IO, DIFFIO_R13p (io), H20 IO, DIFFIO_R13n (io), H21 IO, DIFFIO_R22p (io), H22 IO, DIFFIO_R22n (io), J17 IO, DIFFIO_R10n (io), J18 IO, VREFB6N2 (io), J21 IO, DIFFIO_R23p (io), J22 IO, DIFFIO_R23n (io), K17 IO, DIFFIO_R20n (io), K18 IO, DIFFIO_R20p (io), K19 IO, VREFB6N3 (io), K21 IO, DIFFIO_R24p (io), K22 IO, DIFFIO_R24n (io), L21 IO, DIFFIO_R27p (io), L22 IO, DIFFIO_R27n (io)
part G pins: A13 IO, DIFFIO_T29n (io), A14 IO, DIFFIO_T31n (io), A15 IO, DIFFIO_T36n (io), A16 IO, DIFFIO_T40n (io), A17 IO, DIFFIO_T41n (io), A18 IO, DIFFIO_T45n (io), A19 IO, RDN4 (io), A20 IO, PLL2_CLKOUTn (io), B13 IO, DIFFIO_T29p (io), B14 IO, DIFFIO_T31p (io), B15 IO, DIFFIO_T36p (io), B16 IO, DIFFIO_T40p (io), B17 IO, DIFFIO_T41p (io), B18 IO, DIFFIO_T45p (io), B19 IO, RUP4 (io), B20 IO, PLL2_CLKOUTp (io), C13 IO, DIFFIO_T35n (io), C15 IO, VREFB7N2 (io), C17 IO, DIFFIO_T46p (io), C19 IO, DIFFIO_T47n (io), D13 IO, DIFFIO_T35p (io), D15 IO, VREFB7N1 (io), D17 IO, VREFB7N0 (io), D19 IO, DIFFIO_T47p (io), E11 IO, DIFFIO_T27n (io), E12 IO, DIFFIO_T28p (io), E13 IO, VREFB7N3 (io), E14 IO, DIFFIO_T38n (io), E15 IO, DIFFIO_T44n (io), E16 IO, DIFFIO_T51p (io), F11 IO, DIFFIO_T27p (io), F13 IO, DIFFIO_T37p (io), F14 IO, DIFFIO_T49p (io), F15 IO, DIFFIO_T50n (io), F16 IO, DIFFIO_T51n (io), G13 IO, DIFFIO_T42n (io), G14 IO, DIFFIO_T44p (io), G15 IO, DIFFIO_T49n (io), G16 IO, DIFFIO_T50p (io), H14 IO, DIFFIO_T48p (io), H15 IO, DIFFIO_T48n (io)
part H pins: A3 IO, DIFFIO_T4n (io), A4 IO, DIFFIO_T6n (io), A5 IO, DIFFIO_T11p (io), A6 IO, DIFFIO_T18n (io), A7 IO, DIFFIO_T19n (io), A8 IO, DIFFIO_T20n (io), A9 IO, DIFFIO_T24n (io), A10 IO, DIFFIO_T25n (io), B3 IO, DIFFIO_T4p (io), B4 IO, DIFFIO_T6p (io), B5 IO, VREFB8N2 (io), B6 IO, DIFFIO_T18p (io), B7 IO, DIFFIO_T19p (io), B8 IO, DIFFIO_T20p (io), B9 IO, DIFFIO_T24p (io), B10 IO, DIFFIO_T25p (io), C3 IO, DIFFIO_T3n (io), C4 IO, DIFFIO_T3p (io), C6 IO, DIFFIO_T7n (io), C7 IO, DIFFIO_T16p (io), C8 IO, DIFFIO_T16n (io), C10 IO, VREFB8N0 (io), D6 IO, VREFB8N3 (io), D7 IO, DIFFIO_T7p (io), D10 IO, DIFFIO_T26n (io), E5 IO, PLL3_CLKOUTp (io), E6 IO, PLL3_CLKOUTn (io), E7 IO (io), E9 IO, VREFB8N1 (io), E10 IO, DIFFIO_T26p (io), F7 IO, DIFFIO_T1n (io), F8 IO, DIFFIO_T5n (io), F9 IO (io), F10 IO, DIFFIO_T8p (io), G7 IO, DIFFIO_T1p (io), G8 IO, DIFFIO_T5p (io), G9 IO (io), G10 IO, DIFFIO_T8n (io), G11 IO, DIFFIO_T22n (io), H10 IO, DIFFIO_T14p (io), H11 IO, DIFFIO_T14n (io)
part I pins: A11 CLK10, DIFFCLK_4n (in), A12 CLK8, DIFFCLK_5n (in), AA11 CLK15, DIFFCLK_6p (in), AA12 CLK13, DIFFCLK_7p (in), AB11 CLK14, DIFFCLK_6n (in), AB12 CLK12, DIFFCLK_7n (in), B11 CLK11, DIFFCLK_4p (in), B12 CLK9, DIFFCLK_5p (in), G1 CLK1, DIFFCLK_0n (in), G21 CLK4, DIFFCLK_2p (in), G22 CLK5, DIFFCLK_2n (in), T1 CLK3, DIFFCLK_1n (in), T2 CLK2, DIFFCLK_1p (in), T21 CLK6, DIFFCLK_3p (in), T22 CLK7, DIFFCLK_3n (in)
part J pins: D1 ASDO (io), E2 nCSO (io), K1 DATA0 (io), K2 DCLK (io), K5 nCONFIG (in), K6 nSTATUS (io), K20 MSEL3 (in), L1 TMS (in), L2 TCK (in), L3 nCE (in), L4 TDO (out), L5 TDI (in), L17 MSEL2 (in), L18 MSEL1 (in), M17 MSEL0 (in), M18 CONF_DONE (io)
part K pins: A2 VCCIO8 (power), A21 VCCIO7 (power), AA6 VCCIO3 (power), AB2 VCCIO3 (power), AB21 VCCIO4 (power), D4 VCCIO1 (power), D5 VCCIO8 (power), D9 VCCIO8 (power), D11 VCCIO8 (power), D12 VCCIO7 (power), D14 VCCIO7 (power), D16 VCCIO7 (power), D18 VCCIO7 (power), E8 VCCIO8 (power), E19 VCCIO6 (power), F4 VCCIO1 (power), G12 VCCINT (power), G19 VCCIO6 (power), H4 VCCIO1 (power), H9 VCCINT (power), J10 VCCINT (power), J11 VCCINT (power), J12 VCCINT (power), J13 VCCINT (power), J14 VCCINT (power), J16 VCCINT (power), J20 VCCIO6 (power), K4 VCCIO1 (power), K9 VCCINT (power), K14 VCCINT (power), K15 VCCINT (power), L9 VCCINT (power), L14 VCCINT (power), L16 VCCINT (power), L19 VCCIO6 (power), M9 VCCINT (power), M14 VCCINT (power), M15 VCCINT (power), N4 VCCIO2 (power), N9 VCCINT (power), N14 VCCINT (power), P9 VCCINT (power), P10 VCCINT (power), P11 VCCINT (power), P12 VCCINT (power), P13 VCCINT (power), P14 VCCINT (power), P18 VCCIO5 (power), R4 VCCIO2 (power), R8 VCCINT (power), R10 VCCINT (power), R12 VCCINT (power), T19 VCCIO5 (power), U4 VCCIO2 (power), V19 VCCIO5 (power), W4 VCCIO2 (power), W5 VCCIO3 (power), W9 VCCIO3 (power), W11 VCCIO3 (power), W12 VCCIO4 (power), W16 VCCIO4 (power), W18 VCCIO4 (power), Y14 VCCIO4 (power), Y19 VCCIO5 (power)
part L pins: A1 GND (power), A22 GND (power), AA2 GND (power), AA22 GND (power), AB1 GND (power), AB6 GND (power), AB22 GND (power), C5 GND (power), C9 GND (power), C11 GND (power), C12 GND (power), C14 GND (power), C16 GND (power), C18 GND (power), D3 GND (power), D8 GND (power), E20 GND (power), F3 GND (power), F12 GND (power), G2 GND (power), G20 GND (power), H3 GND (power), H12 GND (power), H13 GND (power), J9 GND (power), J15 GND (power), J19 GND (power), K3 GND (power), K10 GND (power), K11 GND (power), K12 GND (power), K13 GND (power), K16 GND (power), L10 GND (power), L11 GND (power), L12 GND (power), L13 GND (power), L15 GND (power), L20 GND (power), M10 GND (power), M11 GND (power), M12 GND (power), M13 GND (power), N3 GND (power), N10 GND (power), N11 GND (power), N12 GND (power), N13 GND (power), N15 GND (power), P8 GND (power), P19 GND (power), R3 GND (power), R9 GND (power), R11 GND (power), R13 GND (power), T20 GND (power), U3 GND (power), V20 GND (power), W3 GND (power), Y5 GND (power), Y9 GND (power), Y11 GND (power), Y12 GND (power), Y15 GND (power), Y16 GND (power), Y18 GND (power), Y20 GND (power)
part M pins: E17 VCCD_PLL2 (power), E18 GNDA2 (power), F5 GNDA3 (power), F6 VCCD_PLL3 (power), F18 VCCA2 (power), G6 VCCA3 (power), T6 VCCA1 (power), U5 GNDA1 (power), U6 VCCD_PLL1 (power), U18 VCCA4 (power), V17 VCCD_PLL4 (power), V18 GNDA4 (power)
part A text: BANK1
part B text: BANK2
part C text: BANK3
part D text: BANK4
part E text: BANK5
part F text: BANK6
part G text: BANK7
part H text: BANK8

## EPCS16SI8N
designator D?
Flash FPGA; Manufacturer: Altera; Model: EPCS16SI8N; HelpURL: https://www.digikey.com/products/en?keywords=EPCS16SI8N; ComponentKind: 8-SOIC
footprint 8-SOIC
pins: 1 nCS (in) "Active low, chip select input", 2 DATA (out) "Serial data out", 3 VCC (power) "3.3V supply", 4 GND (power) "Ground", 5 ASDI (in) "AS data in", 6 DCLK (in) "Provides timing of the serial interface", 7 VCC (power) "3.3V supply", 8 VCC (power) "3.3V supply"

## HMC5883L
designator D?
3-Axis compass; Manufacturer: Honeywell; Model: HMC5883L; Package: LCC12; HelpURL: HMC5883L
pins: 1 SCL "Active low, chip select input", 2 VDD "Serial data out", 4 S1 "Ground", 8 SETP, 9 GND, 10 C1, 11 GND, 12 SETC, 13 VDDIO, 15 DRDY, 16 SDA

## ICE5LP2K-SG48ITR50
designator D?
FPGA; Manufacturer: Lattice Semiconductor Corporation; Model: ICE5LP2K-SG48ITR50; ComponentKind: 48-VFQFN; HelpURL: https://www.digikey.com/product-detail/en/lattice-semiconductor-corporation/ICE5LP2K-SG48ITR50/220-2066-1-ND/5358107
footprint 48-QFN (7x7)
pins: 1 VCCIO2, 2 IOB_6A (power), 3 IOB_9B (power), 4 IOB_8A (power), 5 VCC, 6 IOB_13B (power), 7 CDONE (power), 8 RESET_B (power), 9 IOB_16A, 10 IOB_18A, 11 IOB_20A, 12 IOB_22A, 13 IOB_24A, 14 IOB_32A_SPI_SO, 15 IOB_34A_SPI_SCK, 16 IOB_35B_SPI_CSN, 17 IOB_33B_SPI_SI, 18 IOB_31B, 19 IOB_29B, 20 IOB_25B_G3, 21 IOB_23B, 22 SPI_VCCIO1, 23 IOT_37A, 24 VPP_2V5, 25 IOT_36B, 26 IOT_39A, 27 IOT_38B, 28 IOT_41A, 29 VCC_PLL, 30 VCC, 31 IOT_42B, 32 IOT_43A, 33 VCCIO0, 34 IOT_44B, 35 IOT_46B_G0, 36 IOT_48B, 37 IOT_45A_G1, 38 IOT_50B, 39 RGB2, 40 RGB1, 41 RGB0, 42 IOT_51A, 43 IOT_49A, 44 IOB_3B_G6 (power), 45 IOB_5B (power), 46 IOB_0A (power), 47 IOB_2A (power), 48 IOB_4A (power)

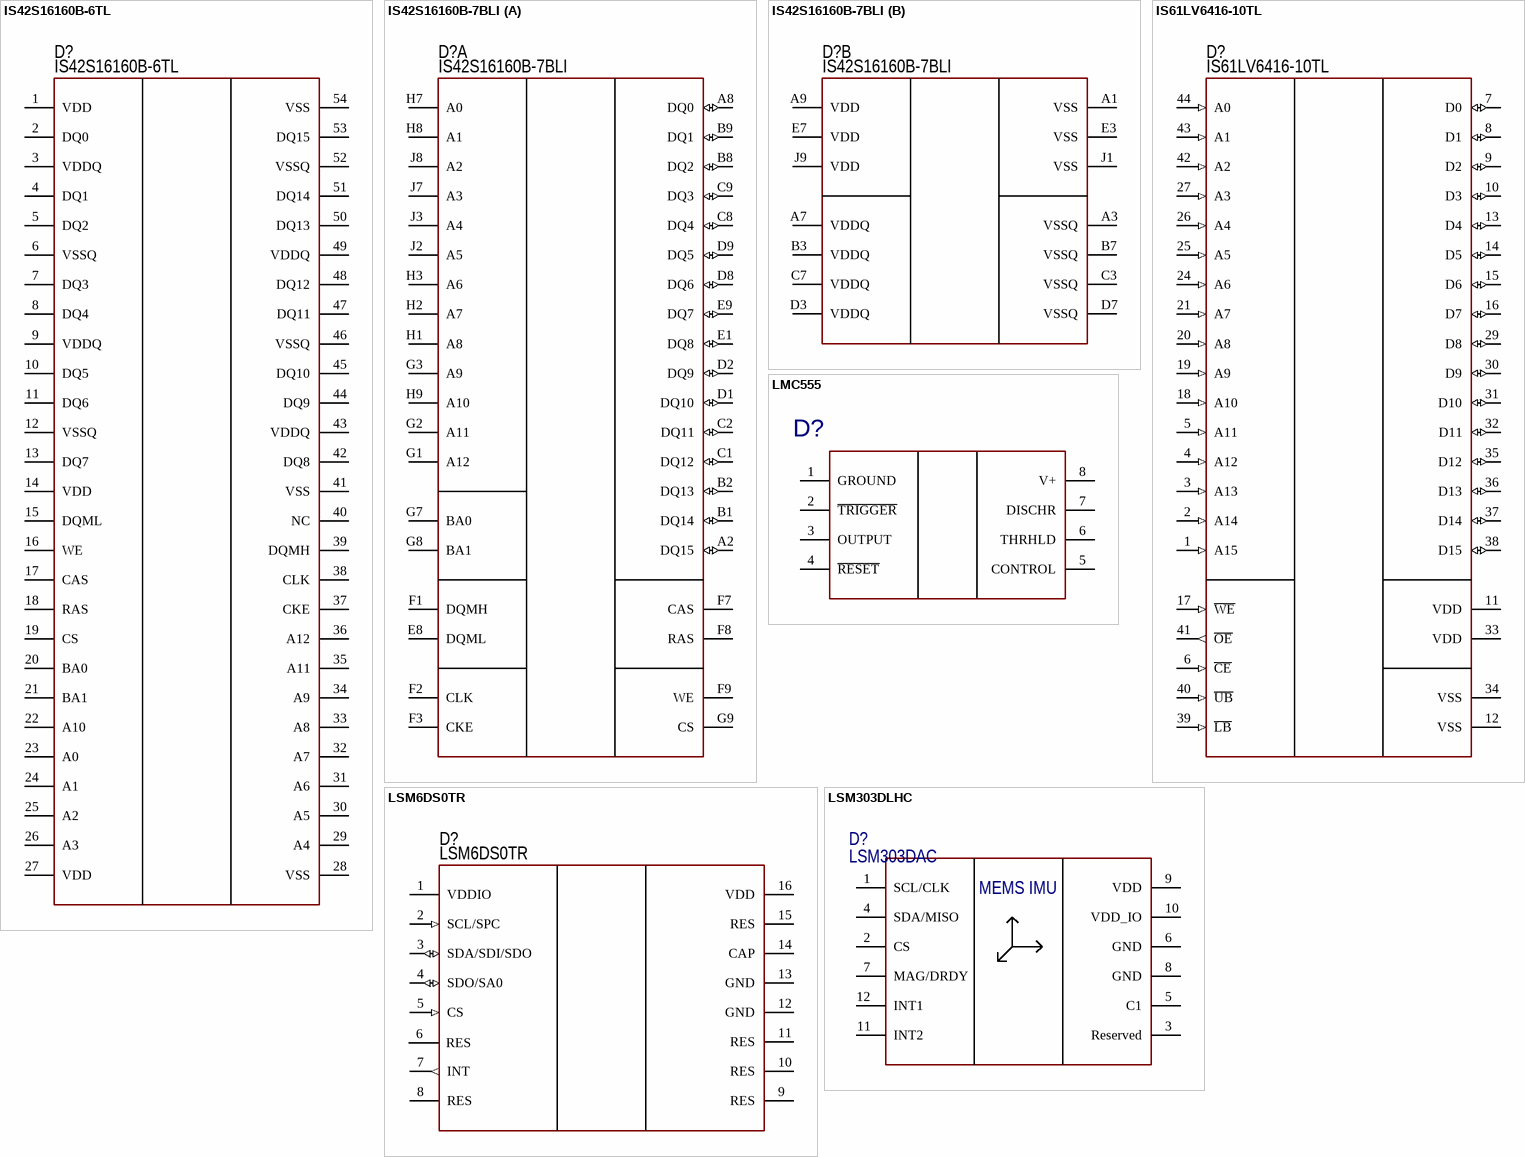
[diagram p11: symbols IS42S16160B-6TL to LSM303DLHC]

## IS42S16160B-6TL
designator D?
SDRAM; Manufacturer: ISSI, Integrated Silicon Solution Inc; Model: IS42S16160B-6TL; ComponentKind: 54-TSOP; HelpURL: https://www.digikey.com/product-detail/en/issi-integrated-silicon-solution-inc/IS42S16160B-6TL-TR/IS42S16160B-6TL-TR-ND/1556915
footprint TSOP-54 (TSOP, 54-Leads, Body 22,22x10,16mm, Pitch 0,80mm, IPC Medium Density)
pins: 1 VDD, 2 DQ0, 3 VDDQ, 4 DQ1, 5 DQ2, 6 VSSQ, 7 DQ3, 8 DQ4, 9 VDDQ, 10 DQ5, 11 DQ6, 12 VSSQ, 13 DQ7, 14 VDD, 15 DQML, 16 WE, 17 CAS, 18 RAS, 19 CS, 20 BA0, 21 BA1, 22 A10, 23 A0, 24 A1, 25 A2, 26 A3, 27 VDD, 28 VSS, 29 A4, 30 A5, 31 A6, 32 A7, 33 A8, 34 A9, 35 A11, 36 A12, 37 CKE, 38 CLK, 39 DQMH, 40 NC, 41 VSS, 42 DQ8, 43 VDDQ, 44 DQ9, 45 DQ10, 46 VSSQ, 47 DQ11, 48 DQ12, 49 VDDQ, 50 DQ13, 51 DQ14, 52 VSSQ, 53 DQ15, 54 VSS

## IS42S16160B-7BLI
designator D?
SDRAM; Manufacturer: ISSI, Integrated Silicon Solution Inc; Model: IS42S16160B-7BLI; ComponentKind: 54-LFBGA; HelpURL: https://www.digikey.com/product-detail/en/issi-integrated-silicon-solution-inc/IS42S16160B-7BLI/IS42S16160B-7BLI-ND/1556922
footprint 54-LFBGA
part A pins: A2 DQ15 (io), A8 DQ0 (io), B1 DQ14 (io), B2 DQ13 (io), B8 DQ2 (io), B9 DQ1 (io), C1 DQ12 (io), C2 DQ11 (io), C8 DQ4 (io), C9 DQ3 (io), D1 DQ10 (io), D2 DQ9 (io), D8 DQ6 (io), D9 DQ5 (io), E1 DQ8 (io), E8 DQML, E9 DQ7 (io), F1 DQMH, F2 CLK, F3 CKE, F7 CAS, F8 RAS, F9 WE, G1 A12, G2 A11, G3 A9, G7 BA0, G8 BA1, G9 CS, H1 A8, H2 A7, H3 A6, H7 A0, H8 A1, H9 A10, J2 A5, J3 A4, J7 A3, J8 A2
part B pins: A1 VSS, A3 VSSQ, A7 VDDQ, A9 VDD, B3 VDDQ, B7 VSSQ, C3 VSSQ, C7 VDDQ, D3 VDDQ, D7 VSSQ, E3 VSS, E7 VDD, J1 VSS, J9 VDD

## IS61LV6416-10TL
designator D?
SRAM; Manufacturer: ISSI, Integrated Silicon Solution Inc; Model: IS61LV6416-10TL; HelpURL: https://www.digikey.com/product-detail/en/issi-integrated-silicon-solution-inc/IS61LV6416-10TL/706-1039-ND/1555412; ComponentKind: TSOP-44
footprint 44-TSOP
pins: 1 A15 (in), 2 A14 (in), 3 A13 (in), 4 A12 (in), 5 A11 (in), 6 ~{CE} (in), 7 D0 (io), 8 D1 (io), 9 D2 (io), 10 D3 (io), 11 VDD (power), 12 VSS (power), 13 D4 (io), 14 D5 (io), 15 D6 (io), 16 D7 (io), 17 ~{WE} (in), 18 A10 (in), 19 A9 (in), 20 A8 (in), 21 A7 (in), 24 A6 (in), 25 A5 (in), 26 A4 (in), 27 A3 (in), 29 D8 (io), 30 D9 (io), 31 D10 (io), 32 D11 (io), 33 VDD (power), 34 VSS (power), 35 D12 (io), 36 D13 (io), 37 D14 (io), 38 D15 (io), 39 ~{LB} (in), 40 ~{UB} (in), 41 ~{OE} (out), 42 A2 (in), 43 A1 (in), 44 A0 (in)

## LMC555
designator D?, comment LMC555CMX/NOPB  (value not drawn)
World’s smallest 555 timer with low power, high accuracy and a Fmax of 3MHz; Manufacturer: TEXAS INSTRUMENTS; ValueManufacturerPartNumber: LMC555CMX/NOPB TEXAS INSTRUMENTS; Model: LMC555CMX/NOPB; Package: SOIC-8; HelpURL: https://www.ti.com/product/LMC555
pins: 1 GROUND, 2 ~{TRIGGER}, 3 OUTPUT, 4 ~{RESET}, 5 CONTROL, 6 THRHLD, 7 DISCHR (power), 8 V+ (power)